# Altium schematic symbol library altera-cyclone-II.SCHLIB: 24 symbols (part 2 of 3)
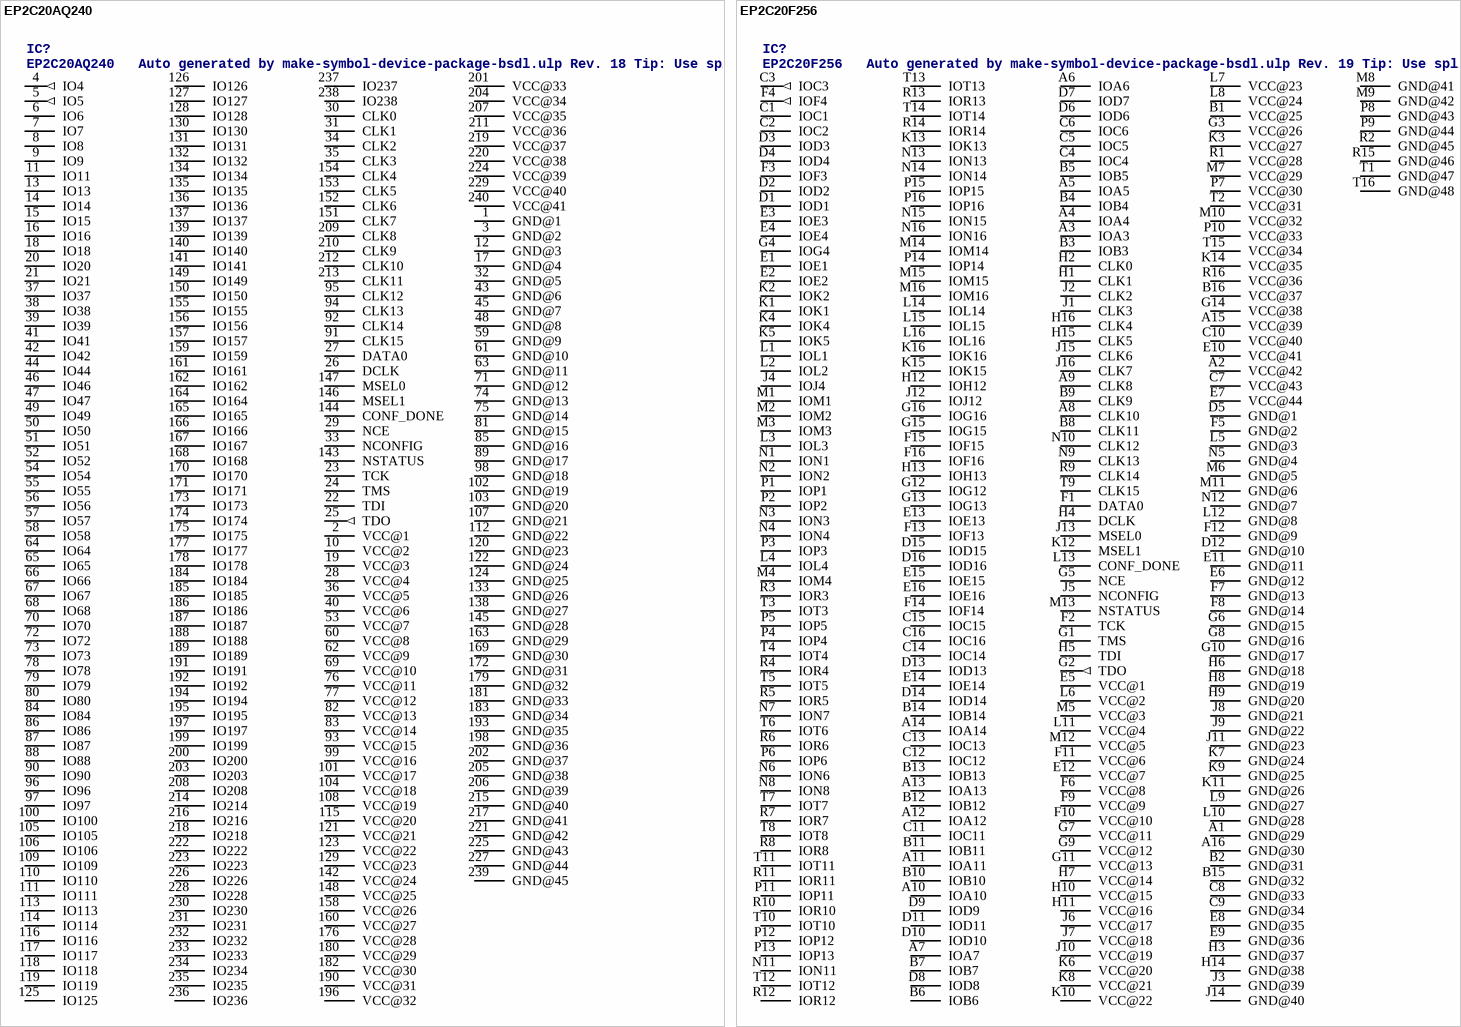
[diagram p21: symbols EP2C20AQ240 to EP2C20F256]

## EP2C20AQ240
designator IC?, comment EP2C20AQ240   Auto generated by make-symbol-device-package-bsdl.ulp Rev. 18 Tip: Use split-device-symbol.ulp to generate a Device with multiple small symbols! Read HELP.   Source: EP2C20AQ240.BSD
OC_FARNELL: unknown; OC_NEWARK: unknown
footprint PQFP240
pins: 1 GND@1 (power), 2 VCC@1 (power), 3 GND@2 (power), 4 IO4 (out), 5 IO5 (out), 6 IO6, 7 IO7, 8 IO8, 9 IO9, 10 VCC@2 (power), 11 IO11, 12 GND@3 (power), 13 IO13, 14 IO14, 15 IO15, 16 IO16, 17 GND@4 (power), 18 IO18, 19 VCC@3 (power), 20 IO20, 21 IO21, 22 TDI, 23 TCK, 24 TMS, 25 TDO (out), 26 DCLK, 27 DATA0, 28 VCC@4 (power), 29 NCE, 30 CLK0, 31 CLK1, 32 GND@5 (power), 33 NCONFIG, 34 CLK2, 35 CLK3, 36 VCC@5 (power), 37 IO37, 38 IO38, 39 IO39, 40 VCC@6 (power), 41 IO41, 42 IO42, 43 GND@6 (power), 44 IO44, 45 GND@7 (power), 46 IO46, 47 IO47, 48 GND@8 (power), 49 IO49, 50 IO50, 51 IO51, 52 IO52, 53 VCC@7 (power), 54 IO54, 55 IO55, 56 IO56, 57 IO57, 58 IO58, 59 GND@9 (power), 60 VCC@8 (power), 61 GND@10 (power), 62 VCC@9 (power), 63 GND@11 (power), 64 IO64, 65 IO65, 66 IO66, 67 IO67, 68 IO68, 69 VCC@10 (power), 70 IO70, 71 GND@12 (power), 72 IO72, 73 IO73, 74 GND@13 (power), 75 GND@14 (power), 76 VCC@11 (power), 77 VCC@12 (power), 78 IO78, 79 IO79, 80 IO80, 81 GND@15 (power), 82 VCC@13 (power), 83 VCC@14 (power), 84 IO84, 85 GND@16 (power), 86 IO86, 87 IO87, 88 IO88, 89 GND@17 (power), 90 IO90, 91 CLK15, 92 CLK14, 93 VCC@15 (power), 94 CLK13, 95 CLK12, 96 IO96, 97 IO97, 98 GND@18 (power), 99 VCC@16 (power), 100 IO100, 101 VCC@17 (power), 102 GND@19 (power), 103 GND@20 (power), 104 VCC@18 (power), 105 IO105, 106 IO106, 107 GND@21 (power), 108 VCC@19 (power), 109 IO109, 110 IO110, 111 IO111, 112 GND@22 (power), 113 IO113, 114 IO114, 115 VCC@20 (power), 116 IO116, 117 IO117, 118 IO118, 119 IO119, 120 GND@23 (power), 121 VCC@21 (power), 122 GND@24 (power), 123 VCC@22 (power), 124 GND@25 (power), 125 IO125, 126 IO126, 127 IO127, 128 IO128, 129 VCC@23 (power), 130 IO130, 131 IO131, 132 IO132, 133 GND@26 (power), 134 IO134, 135 IO135, 136 IO136, 137 IO137, 138 GND@27 (power), 139 IO139, 140 IO140, 141 IO141, 142 VCC@24 (power), 143 NSTATUS, 144 CONF_DONE, 145 GND@28 (power), 146 MSEL1, 147 MSEL0, 148 VCC@25 (power), 149 IO149, 150 IO150, 151 CLK7, 152 CLK6, 153 CLK5, 154 CLK4, 155 IO155, 156 IO156, 157 IO157, 158 VCC@26 (power), 159 IO159, 160 VCC@27 (power), 161 IO161, 162 IO162, 163 GND@29 (power), 164 IO164, 165 IO165, 166 IO166, 167 IO167, 168 IO168, 169 GND@30 (power), 170 IO170, 171 IO171, 172 GND@31 (power), 173 IO173, 174 IO174, 175 IO175, 176 VCC@28 (power), 177 IO177, 178 IO178, 179 GND@32 (power), 180 VCC@29 (power), 181 GND@33 (power), 182 VCC@30 (power), 183 GND@34 (power), 184 IO184, 185 IO185, 186 IO186, 187 IO187, 188 IO188, 189 IO189, 190 VCC@31 (power), 191 IO191, 192 IO192, 193 GND@35 (power), 194 IO194, 195 IO195, 196 VCC@32 (power), 197 IO197, 198 GND@36 (power), 199 IO199, 200 IO200, 201 VCC@33 (power), 202 GND@37 (power), 203 IO203, 204 VCC@34 (power), 205 GND@38 (power), 206 GND@39 (power), 207 VCC@35 (power), 208 IO208, 209 CLK8, 210 CLK9, 211 VCC@36 (power), 212 CLK10, 213 CLK11, 214 IO214, 215 GND@40 (power), 216 IO216, 217 GND@41 (power), 218 IO218, 219 VCC@37 (power), 220 VCC@38 (power), 221 GND@42 (power), 222 IO222, 223 IO223, 224 VCC@39 (power), 225 GND@43 (power), 226 IO226, 227 GND@44 (power), 228 IO228, 229 VCC@40 (power), 230 IO230, 231 IO231, 232 IO232, 233 IO233, 234 IO234, 235 IO235, 236 IO236, 237 IO237, 238 IO238, 239 GND@45 (power), 240 VCC@41 (power)

## EP2C20F256
designator IC?, comment EP2C20F256   Auto generated by make-symbol-device-package-bsdl.ulp Rev. 19 Tip: Use split-device-symbol.ulp to generate a Device with multiple small symbols! Read HELP.   Source: EP2C20F256.BSD
MPN: EP2C20F256I8N; OC_FARNELL: 1453469; OC_NEWARK: 52R0507
footprint FBGA256
pins: A1 GND@29 (power), A2 VCC@42 (power), A3 IOA3, A4 IOA4, A5 IOA5, A6 IOA6, A7 IOA7, A8 CLK10, A9 CLK8, A10 IOA10, A11 IOA11, A12 IOA12, A13 IOA13, A14 IOA14, A15 VCC@39 (power), A16 GND@30 (power), B1 VCC@25 (power), B2 GND@31 (power), B3 IOB3, B4 IOB4, B5 IOB5, B6 IOB6, B7 IOB7, B8 CLK11, B9 CLK9, B10 IOB10, B11 IOB11, B12 IOB12, B13 IOB13, B14 IOB14, B15 GND@32 (power), B16 VCC@37 (power), C1 IOC1, C2 IOC2, C3 IOC3 (out), C4 IOC4, C5 IOC5, C6 IOC6, C7 VCC@43 (power), C8 GND@33 (power), C9 GND@34 (power), C10 VCC@40 (power), C11 IOC11, C12 IOC12, C13 IOC13, C14 IOC14, C15 IOC15, C16 IOC16, D1 IOD1, D2 IOD2, D3 IOD3, D4 IOD4, D5 GND@1 (power), D6 IOD6, D7 IOD7, D8 IOD8, D9 IOD9, D10 IOD10, D11 IOD11, D12 GND@10 (power), D13 IOD13, D14 IOD14, D15 IOD15, D16 IOD16, E1 IOE1, E2 IOE2, E3 IOE3, E4 IOE4, E5 VCC@1 (power), E6 GND@12 (power), E7 VCC@44 (power), E8 GND@35 (power), E9 GND@36 (power), E10 VCC@41 (power), E11 GND@11 (power), E12 VCC@7 (power), E13 IOE13, E14 IOE14, E15 IOE15, E16 IOE16, F1 DATA0, F2 TCK, F3 IOF3, F4 IOF4 (out), F5 GND@2 (power), F6 VCC@8 (power), F7 GND@13 (power), F8 GND@14 (power), F9 VCC@9 (power), F10 VCC@10 (power), F11 VCC@6 (power), F12 GND@9 (power), F13 IOF13, F14 IOF14, F15 IOF15, F16 IOF16, G1 TMS, G2 TDO (out), G3 VCC@26 (power), G4 IOG4, G5 NCE, G6 GND@15 (power), G7 VCC@11 (power), G8 GND@16 (power), G9 VCC@12 (power), G10 GND@17 (power), G11 VCC@13 (power), G12 IOG12, G13 IOG13, G14 VCC@38 (power), G15 IOG15, G16 IOG16, H1 CLK1, H2 CLK0, H3 GND@37 (power), H4 DCLK, H5 TDI, H6 GND@18 (power), H7 VCC@14 (power), H8 GND@19 (power), H9 GND@20 (power), H10 VCC@15 (power), H11 VCC@16 (power), H12 IOH12, H13 IOH13, H14 GND@38 (power), H15 CLK5, H16 CLK4, J1 CLK3, J2 CLK2, J3 GND@39 (power), J4 IOJ4, J5 NCONFIG, J6 VCC@17 (power), J7 VCC@18 (power), J8 GND@21 (power), J9 GND@22 (power), J10 VCC@19 (power), J11 GND@23 (power), J12 IOJ12, J13 MSEL0, J14 GND@40 (power), J15 CLK6, J16 CLK7, K1 IOK1, K2 IOK2, K3 VCC@27 (power), K4 IOK4, K5 IOK5, K6 VCC@20 (power), K7 GND@24 (power), K8 VCC@21 (power), K9 GND@25 (power), K10 VCC@22 (power), K11 GND@26 (power), K12 MSEL1, K13 IOK13, K14 VCC@35 (power), K15 IOK15, K16 IOK16, L1 IOL1, L2 IOL2, L3 IOL3, L4 IOL4, L5 GND@3 (power), L6 VCC@2 (power), L7 VCC@23 (power), L8 VCC@24 (power), L9 GND@27 (power), L10 GND@28 (power), L11 VCC@4 (power), L12 GND@8 (power), L13 CONF_DONE, L14 IOL14, L15 IOL15, L16 IOL16, M1 IOM1, M2 IOM2, M3 IOM3, M4 IOM4, M5 VCC@3 (power), M6 GND@5 (power), M7 VCC@29 (power), M8 GND@41 (power), M9 GND@42 (power), M10 VCC@32 (power), M11 GND@6 (power), M12 VCC@5 (power), M13 NSTATUS, M14 IOM14, M15 IOM15, M16 IOM16, N1 ION1, N2 ION2, N3 ION3, N4 ION4, N5 GND@4 (power), N6 ION6, N7 ION7, N8 ION8, N9 CLK13, N10 CLK12, N11 ION11, N12 GND@7 (power), N13 ION13, N14 ION14, N15 ION15, N16 ION16, P1 IOP1, P2 IOP2, P3 IOP3, P4 IOP4, P5 IOP5, P6 IOP6, P7 VCC@30 (power), P8 GND@43 (power), P9 GND@44 (power), P10 VCC@33 (power), P11 IOP11, P12 IOP12, P13 IOP13, P14 IOP14, P15 IOP15, P16 IOP16, R1 VCC@28 (power), R2 GND@45 (power), R3 IOR3, R4 IOR4, R5 IOR5, R6 IOR6, R7 IOR7, R8 IOR8, R9 CLK14, R10 IOR10, R11 IOR11, R12 IOR12, R13 IOR13, R14 IOR14, R15 GND@46 (power), R16 VCC@36 (power), T1 GND@47 (power), T2 VCC@31 (power), T3 IOT3, T4 IOT4, T5 IOT5, T6 IOT6, T7 IOT7, T8 IOT8, T9 CLK15, T10 IOT10, T11 IOT11, T12 IOT12, T13 IOT13, T14 IOT14, T15 VCC@34 (power), T16 GND@48 (power)

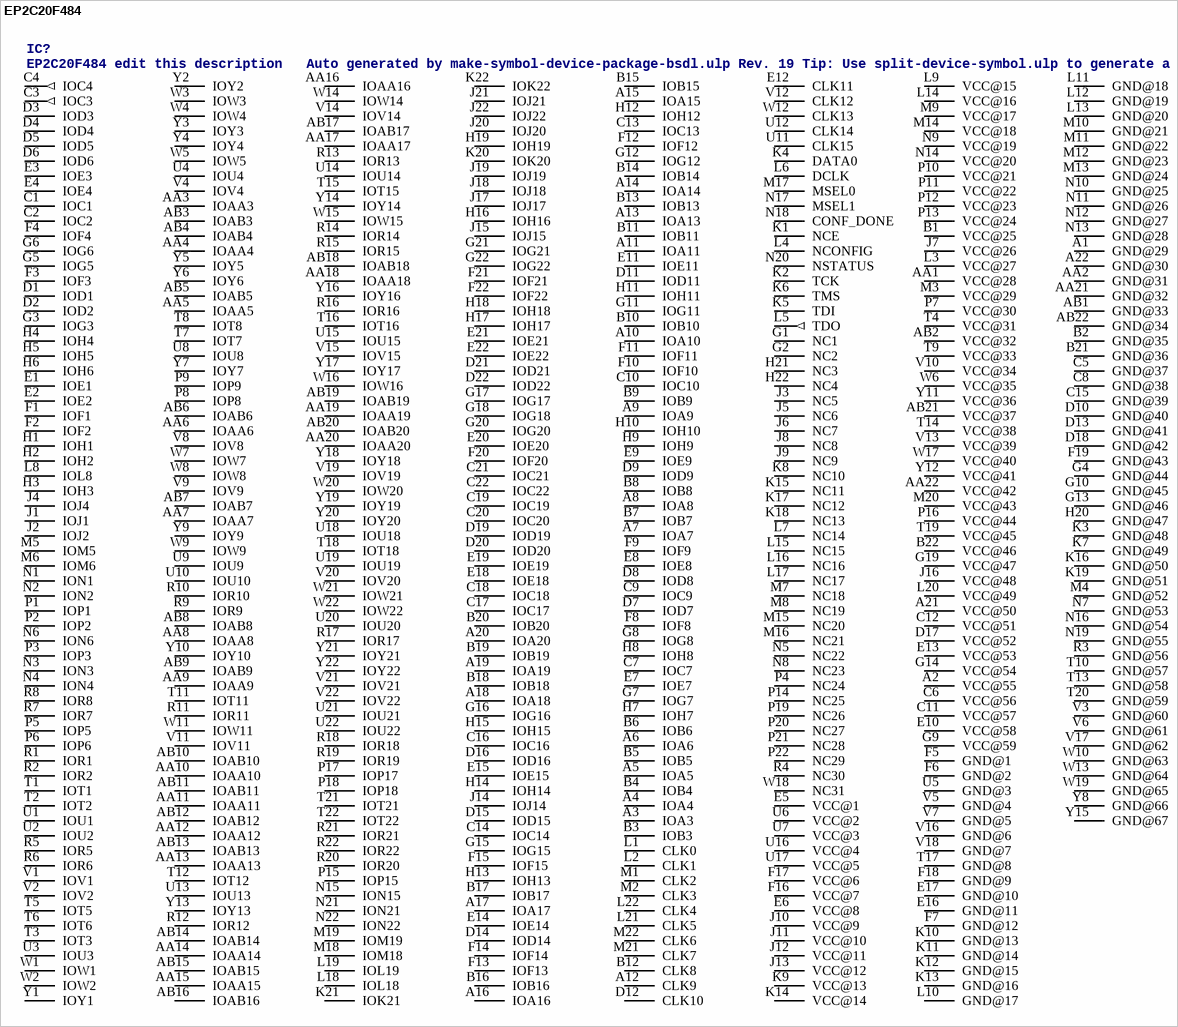
[diagram p13: symbol EP2C20F484]

## EP2C20F484
designator IC?, comment EP2C20F484 edit this description   Auto generated by make-symbol-device-package-bsdl.ulp Rev. 19 Tip: Use split-device-symbol.ulp to generate a Device with multiple small symbols! Read HELP.   Source: EP2C20F484.BSD
MPN: EP2C20F484C8N; OC_FARNELL: 1549354; OC_NEWARK: 51R0561
footprint FBGA484
pins: A1 GND@29 (power), A2 VCC@55 (power), A3 IOA3, A4 IOA4, A5 IOA5, A6 IOA6, A7 IOA7, A8 IOA8, A9 IOA9, A10 IOA10, A11 IOA11, A12 CLK9, A13 IOA13, A14 IOA14, A15 IOA15, A16 IOA16, A17 IOA17, A18 IOA18, A19 IOA19, A20 IOA20, A21 VCC@50 (power), A22 GND@30 (power), AA1 VCC@28 (power), AA2 GND@31 (power), AA3 IOAA3, AA4 IOAA4, AA5 IOAA5, AA6 IOAA6, AA7 IOAA7, AA8 IOAA8, AA9 IOAA9, AA10 IOAA10, AA11 IOAA11, AA12 IOAA12, AA13 IOAA13, AA14 IOAA14, AA15 IOAA15, AA16 IOAA16, AA17 IOAA17, AA18 IOAA18, AA19 IOAA19, AA20 IOAA20, AA21 GND@32 (power), AA22 VCC@42 (power), AB1 GND@33 (power), AB2 VCC@32 (power), AB3 IOAB3, AB4 IOAB4, AB5 IOAB5, AB6 IOAB6, AB7 IOAB7, AB8 IOAB8, AB9 IOAB9, AB10 IOAB10, AB11 IOAB11, AB12 IOAB12, AB13 IOAB13, AB14 IOAB14, AB15 IOAB15, AB16 IOAB16, AB17 IOAB17, AB18 IOAB18, AB19 IOAB19, AB20 IOAB20, AB21 VCC@37 (power), AB22 GND@34 (power), B1 VCC@25 (power), B2 GND@35 (power), B3 IOB3, B4 IOB4, B5 IOB5, B6 IOB6, B7 IOB7, B8 IOB8, B9 IOB9, B10 IOB10, B11 IOB11, B12 CLK8, B13 IOB13, B14 IOB14, B15 IOB15, B16 IOB16, B17 IOB17, B18 IOB18, B19 IOB19, B20 IOB20, B21 GND@36 (power), B22 VCC@46 (power), C1 IOC1, C2 IOC2, C3 IOC3 (out), C4 IOC4 (out), C5 GND@37 (power), C6 VCC@56 (power), C7 IOC7, C8 GND@38 (power), C9 IOC9, C10 IOC10, C11 VCC@57 (power), C12 VCC@51 (power), C13 IOC13, C14 IOC14, C15 GND@39 (power), C16 IOC16, C17 IOC17, C18 IOC18, C19 IOC19, C20 IOC20, C21 IOC21, C22 IOC22, D1 IOD1, D2 IOD2, D3 IOD3, D4 IOD4, D5 IOD5, D6 IOD6, D7 IOD7, D8 IOD8, D9 IOD9, D10 GND@40 (power), D11 IOD11, D12 CLK10, D13 GND@41 (power), D14 IOD14, D15 IOD15, D16 IOD16, D17 VCC@52 (power), D18 GND@42 (power), D19 IOD19, D20 IOD20, D21 IOD21, D22 IOD22, E1 IOE1, E2 IOE2, E3 IOE3, E4 IOE4, E5 VCC@1 (power), E6 VCC@8 (power), E7 IOE7, E8 IOE8, E9 IOE9, E10 VCC@58 (power), E11 IOE11, E12 CLK11, E13 VCC@53 (power), E14 IOE14, E15 IOE15, E16 GND@11 (power), E17 GND@10 (power), E18 IOE18, E19 IOE19, E20 IOE20, E21 IOE21, E22 IOE22, F1 IOF1, F2 IOF2, F3 IOF3, F4 IOF4, F5 GND@1 (power), F6 GND@2 (power), F7 GND@12 (power), F8 IOF8, F9 IOF9, F10 IOF10, F11 IOF11, F12 IOF12, F13 IOF13, F14 IOF14, F15 IOF15, F16 VCC@7 (power), F17 VCC@6 (power), F18 GND@9 (power), F19 GND@43 (power), F20 IOF20, F21 IOF21, F22 IOF22, G1 NC1, G2 NC2, G3 IOG3, G4 GND@44 (power), G5 IOG5, G6 IOG6, G7 IOG7, G8 IOG8, G9 VCC@59 (power), G10 GND@45 (power), G11 IOG11, G12 IOG12, G13 GND@46 (power), G14 VCC@54 (power), G15 IOG15, G16 IOG16, G17 IOG17, G18 IOG18, G19 VCC@47 (power), G20 IOG20, G21 IOG21, G22 IOG22, H1 IOH1, H2 IOH2, H3 IOH3, H4 IOH4, H5 IOH5, H6 IOH6, H7 IOH7, H8 IOH8, H9 IOH9, H10 IOH10, H11 IOH11, H12 IOH12, H13 IOH13, H14 IOH14, H15 IOH15, H16 IOH16, H17 IOH17, H18 IOH18, H19 IOH19, H20 GND@47 (power), H21 NC3, H22 NC4, J1 IOJ1, J2 IOJ2, J3 NC5, J4 IOJ4, J5 NC6, J6 NC7, J7 VCC@26 (power), J8 NC8, J9 NC9, J10 VCC@9 (power), J11 VCC@10 (power), J12 VCC@11 (power), J13 VCC@12 (power), J14 IOJ14, J15 IOJ15, J16 VCC@48 (power), J17 IOJ17, J18 IOJ18, J19 IOJ19, J20 IOJ20, J21 IOJ21, J22 IOJ22, K1 NCE, K2 TCK, K3 GND@48 (power), K4 DATA0, K5 TDI, K6 TMS, K7 GND@49 (power), K8 NC10, K9 VCC@13 (power), K10 GND@13 (power), K11 GND@14 (power), K12 GND@15 (power), K13 GND@16 (power), K14 VCC@14 (power), K15 NC11, K16 GND@50 (power), K17 NC12, K18 NC13, K19 GND@51 (power), K20 IOK20, K21 IOK21, K22 IOK22, L1 CLK0, L2 CLK1, L3 VCC@27 (power), L4 NCONFIG, L5 TDO (out), L6 DCLK, L7 NC14, L8 IOL8, L9 VCC@15 (power), L10 GND@17 (power), L11 GND@18 (power), L12 GND@19 (power), L13 GND@20 (power), L14 VCC@16 (power), L15 NC15, L16 NC16, L17 NC17, L18 IOL18, L19 IOL19, L20 VCC@49 (power), L21 CLK5, L22 CLK4, M1 CLK2, M2 CLK3, M3 VCC@29 (power), M4 GND@52 (power), M5 IOM5, M6 IOM6, M7 NC18, M8 NC19, M9 VCC@17 (power), M10 GND@21 (power), M11 GND@22 (power), M12 GND@23 (power), M13 GND@24 (power), M14 VCC@18 (power), M15 NC20, M16 NC21, M17 MSEL0, M18 IOM18, M19 IOM19, M20 VCC@43 (power), M21 CLK7, M22 CLK6, N1 ION1, N2 ION2, N3 ION3, N4 ION4, N5 NC22, N6 ION6, N7 GND@53 (power), N8 NC23, N9 VCC@19 (power), N10 GND@25 (power), N11 GND@26 (power), N12 GND@27 (power), N13 GND@28 (power), N14 VCC@20 (power), N15 ION15, N16 GND@54 (power), N17 MSEL1, N18 CONF_DONE, N19 GND@55 (power), N20 NSTATUS, N21 ION21, N22 ION22, P1 IOP1, P2 IOP2, P3 IOP3, P4 NC24, P5 IOP5, P6 IOP6, P7 VCC@30 (power), P8 IOP8, P9 IOP9, P10 VCC@21 (power), P11 VCC@22 (power), P12 VCC@23 (power), P13 VCC@24 (power), P14 NC25, P15 IOP15, P16 VCC@44 (power), P17 IOP17, P18 IOP18, P19 NC26, P20 NC27, P21 NC28, P22 NC29, R1 IOR1, R2 IOR2, R3 GND@56 (power), R4 NC30, R5 IOR5, R6 IOR6, R7 IOR7, R8 IOR8, R9 IOR9, R10 IOR10, R11 IOR11, R12 IOR12, R13 IOR13, R14 IOR14, R15 IOR15, R16 IOR16, R17 IOR17, R18 IOR18, R19 IOR19, R20 IOR20, R21 IOR21, R22 IOR22, T1 IOT1, T2 IOT2, T3 IOT3, T4 VCC@31 (power), T5 IOT5, T6 IOT6, T7 IOT7, T8 IOT8, T9 VCC@33 (power), T10 GND@57 (power), T11 IOT11, T12 IOT12, T13 GND@58 (power), T14 VCC@38 (power), T15 IOT15, T16 IOT16, T17 GND@8 (power), T18 IOT18, T19 VCC@45 (power), T20 GND@59 (power), T21 IOT21, T22 IOT22, U1 IOU1, U2 IOU2, U3 IOU3, U4 IOU4, U5 GND@3 (power), U6 VCC@2 (power), U7 VCC@3 (power), U8 IOU8, U9 IOU9, U10 IOU10, U11 CLK15, U12 CLK14, U13 IOU13, U14 IOU14, U15 IOU15, U16 VCC@4 (power), U17 VCC@5 (power), U18 IOU18, U19 IOU19, U20 IOU20, U21 IOU21, U22 IOU22, V1 IOV1, V2 IOV2, V3 GND@60 (power), V4 IOV4, V5 GND@4 (power), V6 GND@61 (power), V7 GND@5 (power), V8 IOV8, V9 IOV9, V10 VCC@34 (power), V11 IOV11, V12 CLK12, V13 VCC@39 (power), V14 IOV14, V15 IOV15, V16 GND@6 (power), V17 GND@62 (power), V18 GND@7 (power), V19 IOV19, V20 IOV20, V21 IOV21, V22 IOV22, W1 IOW1, W2 IOW2, W3 IOW3, W4 IOW4, W5 IOW5, W6 VCC@35 (power), W7 IOW7, W8 IOW8, W9 IOW9, W10 GND@63 (power), W11 IOW11, W12 CLK13, W13 GND@64 (power), W14 IOW14, W15 IOW15, W16 IOW16, W17 VCC@40 (power), W18 NC31, W19 GND@65 (power), W20 IOW20, W21 IOW21, W22 IOW22, Y1 IOY1, Y2 IOY2, Y3 IOY3, Y4 IOY4, Y5 IOY5, Y6 IOY6, Y7 IOY7, Y8 GND@66 (power), Y9 IOY9, Y10 IOY10, Y11 VCC@36 (power), Y12 VCC@41 (power), Y13 IOY13, Y14 IOY14, Y15 GND@67 (power), Y16 IOY16, Y17 IOY17, Y18 IOY18, Y19 IOY19, Y20 IOY20, Y21 IOY21, Y22 IOY22

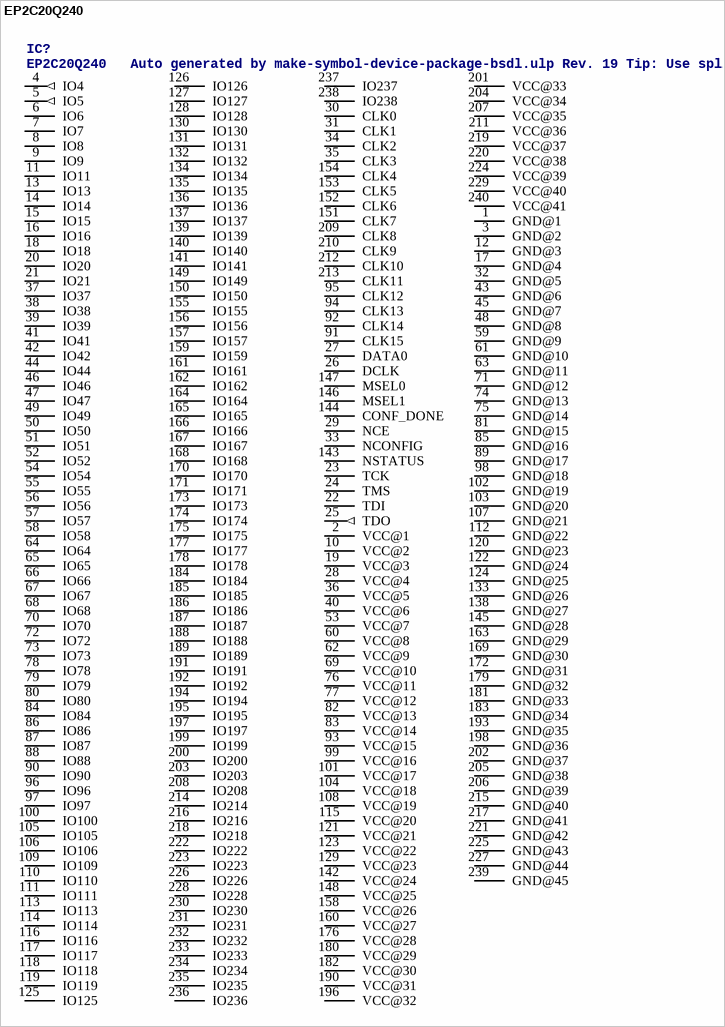
[diagram p14: symbol EP2C20Q240]

## EP2C20Q240
designator IC?, comment EP2C20Q240   Auto generated by make-symbol-device-package-bsdl.ulp Rev. 19 Tip: Use split-device-symbol.ulp to generate a Device with multiple small symbols! Read HELP.   Source: EP2C20Q240.BSD
MPN: EP2C20Q240C8N; OC_FARNELL: 1453472; OC_NEWARK: 51R0562
footprint PQFP240
pins: 1 GND@1 (power), 2 VCC@1 (power), 3 GND@2 (power), 4 IO4 (out), 5 IO5 (out), 6 IO6, 7 IO7, 8 IO8, 9 IO9, 10 VCC@2 (power), 11 IO11, 12 GND@3 (power), 13 IO13, 14 IO14, 15 IO15, 16 IO16, 17 GND@4 (power), 18 IO18, 19 VCC@3 (power), 20 IO20, 21 IO21, 22 TDI, 23 TCK, 24 TMS, 25 TDO (out), 26 DCLK, 27 DATA0, 28 VCC@4 (power), 29 NCE, 30 CLK0, 31 CLK1, 32 GND@5 (power), 33 NCONFIG, 34 CLK2, 35 CLK3, 36 VCC@5 (power), 37 IO37, 38 IO38, 39 IO39, 40 VCC@6 (power), 41 IO41, 42 IO42, 43 GND@6 (power), 44 IO44, 45 GND@7 (power), 46 IO46, 47 IO47, 48 GND@8 (power), 49 IO49, 50 IO50, 51 IO51, 52 IO52, 53 VCC@7 (power), 54 IO54, 55 IO55, 56 IO56, 57 IO57, 58 IO58, 59 GND@9 (power), 60 VCC@8 (power), 61 GND@10 (power), 62 VCC@9 (power), 63 GND@11 (power), 64 IO64, 65 IO65, 66 IO66, 67 IO67, 68 IO68, 69 VCC@10 (power), 70 IO70, 71 GND@12 (power), 72 IO72, 73 IO73, 74 GND@13 (power), 75 GND@14 (power), 76 VCC@11 (power), 77 VCC@12 (power), 78 IO78, 79 IO79, 80 IO80, 81 GND@15 (power), 82 VCC@13 (power), 83 VCC@14 (power), 84 IO84, 85 GND@16 (power), 86 IO86, 87 IO87, 88 IO88, 89 GND@17 (power), 90 IO90, 91 CLK15, 92 CLK14, 93 VCC@15 (power), 94 CLK13, 95 CLK12, 96 IO96, 97 IO97, 98 GND@18 (power), 99 VCC@16 (power), 100 IO100, 101 VCC@17 (power), 102 GND@19 (power), 103 GND@20 (power), 104 VCC@18 (power), 105 IO105, 106 IO106, 107 GND@21 (power), 108 VCC@19 (power), 109 IO109, 110 IO110, 111 IO111, 112 GND@22 (power), 113 IO113, 114 IO114, 115 VCC@20 (power), 116 IO116, 117 IO117, 118 IO118, 119 IO119, 120 GND@23 (power), 121 VCC@21 (power), 122 GND@24 (power), 123 VCC@22 (power), 124 GND@25 (power), 125 IO125, 126 IO126, 127 IO127, 128 IO128, 129 VCC@23 (power), 130 IO130, 131 IO131, 132 IO132, 133 GND@26 (power), 134 IO134, 135 IO135, 136 IO136, 137 IO137, 138 GND@27 (power), 139 IO139, 140 IO140, 141 IO141, 142 VCC@24 (power), 143 NSTATUS, 144 CONF_DONE, 145 GND@28 (power), 146 MSEL1, 147 MSEL0, 148 VCC@25 (power), 149 IO149, 150 IO150, 151 CLK7, 152 CLK6, 153 CLK5, 154 CLK4, 155 IO155, 156 IO156, 157 IO157, 158 VCC@26 (power), 159 IO159, 160 VCC@27 (power), 161 IO161, 162 IO162, 163 GND@29 (power), 164 IO164, 165 IO165, 166 IO166, 167 IO167, 168 IO168, 169 GND@30 (power), 170 IO170, 171 IO171, 172 GND@31 (power), 173 IO173, 174 IO174, 175 IO175, 176 VCC@28 (power), 177 IO177, 178 IO178, 179 GND@32 (power), 180 VCC@29 (power), 181 GND@33 (power), 182 VCC@30 (power), 183 GND@34 (power), 184 IO184, 185 IO185, 186 IO186, 187 IO187, 188 IO188, 189 IO189, 190 VCC@31 (power), 191 IO191, 192 IO192, 193 GND@35 (power), 194 IO194, 195 IO195, 196 VCC@32 (power), 197 IO197, 198 GND@36 (power), 199 IO199, 200 IO200, 201 VCC@33 (power), 202 GND@37 (power), 203 IO203, 204 VCC@34 (power), 205 GND@38 (power), 206 GND@39 (power), 207 VCC@35 (power), 208 IO208, 209 CLK8, 210 CLK9, 211 VCC@36 (power), 212 CLK10, 213 CLK11, 214 IO214, 215 GND@40 (power), 216 IO216, 217 GND@41 (power), 218 IO218, 219 VCC@37 (power), 220 VCC@38 (power), 221 GND@42 (power), 222 IO222, 223 IO223, 224 VCC@39 (power), 225 GND@43 (power), 226 IO226, 227 GND@44 (power), 228 IO228, 229 VCC@40 (power), 230 IO230, 231 IO231, 232 IO232, 233 IO233, 234 IO234, 235 IO235, 236 IO236, 237 IO237, 238 IO238, 239 GND@45 (power), 240 VCC@41 (power)

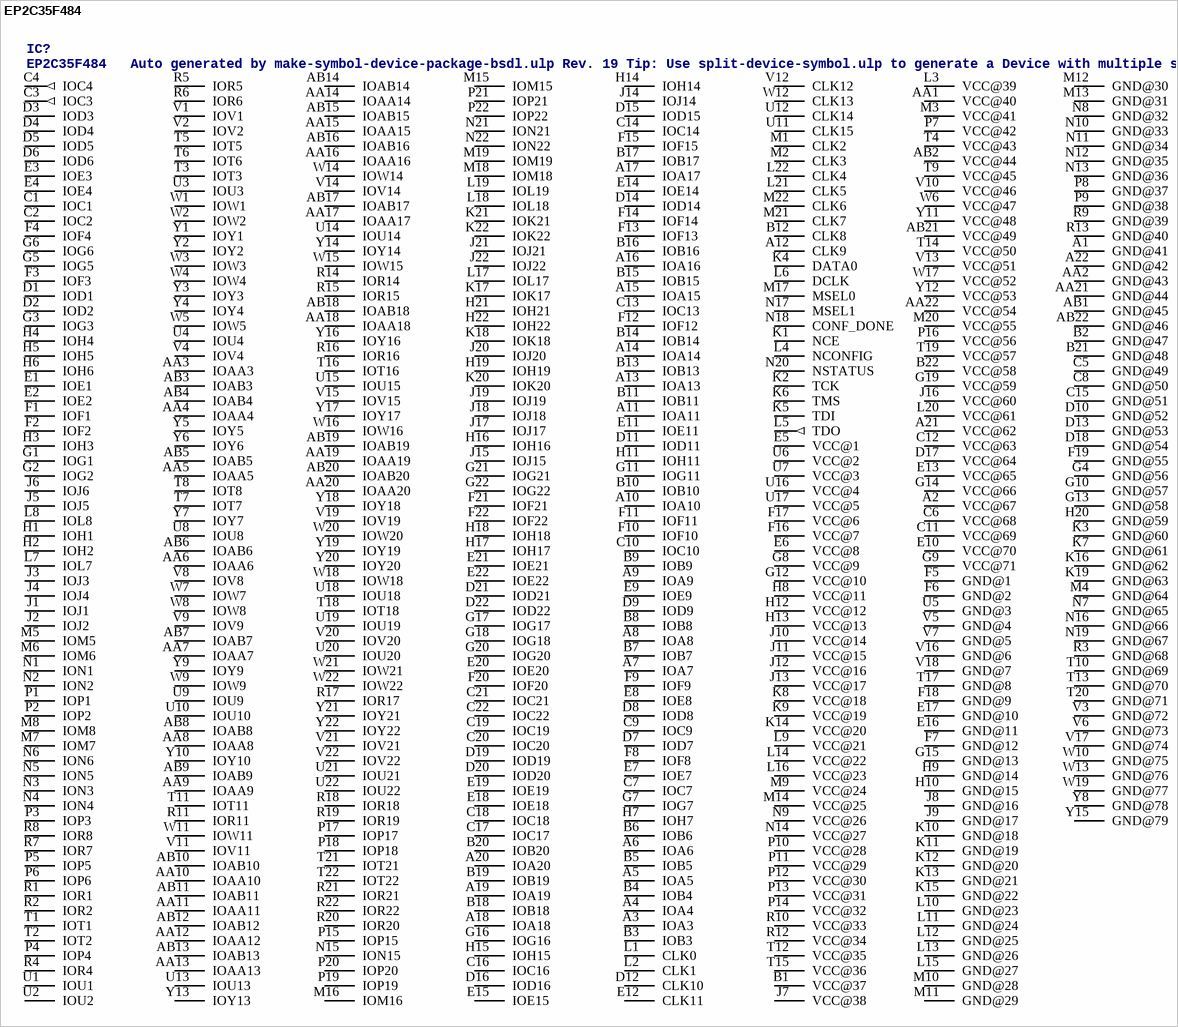
[diagram p15: symbol EP2C35F484]

## EP2C35F484
designator IC?, comment EP2C35F484   Auto generated by make-symbol-device-package-bsdl.ulp Rev. 19 Tip: Use split-device-symbol.ulp to generate a Device with multiple small symbols! Read HELP.   Source: EP2C35F484.BSD
MPN: EP2C35F484C8N; OC_FARNELL: 1453465; OC_NEWARK: 51R0563
footprint FBGA484
pins: A1 GND@41 (power), A2 VCC@67 (power), A3 IOA3, A4 IOA4, A5 IOA5, A6 IOA6, A7 IOA7, A8 IOA8, A9 IOA9, A10 IOA10, A11 IOA11, A12 CLK9, A13 IOA13, A14 IOA14, A15 IOA15, A16 IOA16, A17 IOA17, A18 IOA18, A19 IOA19, A20 IOA20, A21 VCC@62 (power), A22 GND@42 (power), AA1 VCC@40 (power), AA2 GND@43 (power), AA3 IOAA3, AA4 IOAA4, AA5 IOAA5, AA6 IOAA6, AA7 IOAA7, AA8 IOAA8, AA9 IOAA9, AA10 IOAA10, AA11 IOAA11, AA12 IOAA12, AA13 IOAA13, AA14 IOAA14, AA15 IOAA15, AA16 IOAA16, AA17 IOAA17, AA18 IOAA18, AA19 IOAA19, AA20 IOAA20, AA21 GND@44 (power), AA22 VCC@54 (power), AB1 GND@45 (power), AB2 VCC@44 (power), AB3 IOAB3, AB4 IOAB4, AB5 IOAB5, AB6 IOAB6, AB7 IOAB7, AB8 IOAB8, AB9 IOAB9, AB10 IOAB10, AB11 IOAB11, AB12 IOAB12, AB13 IOAB13, AB14 IOAB14, AB15 IOAB15, AB16 IOAB16, AB17 IOAB17, AB18 IOAB18, AB19 IOAB19, AB20 IOAB20, AB21 VCC@49 (power), AB22 GND@46 (power), B1 VCC@37 (power), B2 GND@47 (power), B3 IOB3, B4 IOB4, B5 IOB5, B6 IOB6, B7 IOB7, B8 IOB8, B9 IOB9, B10 IOB10, B11 IOB11, B12 CLK8, B13 IOB13, B14 IOB14, B15 IOB15, B16 IOB16, B17 IOB17, B18 IOB18, B19 IOB19, B20 IOB20, B21 GND@48 (power), B22 VCC@58 (power), C1 IOC1, C2 IOC2, C3 IOC3 (out), C4 IOC4 (out), C5 GND@49 (power), C6 VCC@68 (power), C7 IOC7, C8 GND@50 (power), C9 IOC9, C10 IOC10, C11 VCC@69 (power), C12 VCC@63 (power), C13 IOC13, C14 IOC14, C15 GND@51 (power), C16 IOC16, C17 IOC17, C18 IOC18, C19 IOC19, C20 IOC20, C21 IOC21, C22 IOC22, D1 IOD1, D2 IOD2, D3 IOD3, D4 IOD4, D5 IOD5, D6 IOD6, D7 IOD7, D8 IOD8, D9 IOD9, D10 GND@52 (power), D11 IOD11, D12 CLK10, D13 GND@53 (power), D14 IOD14, D15 IOD15, D16 IOD16, D17 VCC@64 (power), D18 GND@54 (power), D19 IOD19, D20 IOD20, D21 IOD21, D22 IOD22, E1 IOE1, E2 IOE2, E3 IOE3, E4 IOE4, E5 VCC@1 (power), E6 VCC@8 (power), E7 IOE7, E8 IOE8, E9 IOE9, E10 VCC@70 (power), E11 IOE11, E12 CLK11, E13 VCC@65 (power), E14 IOE14, E15 IOE15, E16 GND@11 (power), E17 GND@10 (power), E18 IOE18, E19 IOE19, E20 IOE20, E21 IOE21, E22 IOE22, F1 IOF1, F2 IOF2, F3 IOF3, F4 IOF4, F5 GND@1 (power), F6 GND@2 (power), F7 GND@12 (power), F8 IOF8, F9 IOF9, F10 IOF10, F11 IOF11, F12 IOF12, F13 IOF13, F14 IOF14, F15 IOF15, F16 VCC@7 (power), F17 VCC@6 (power), F18 GND@9 (power), F19 GND@55 (power), F20 IOF20, F21 IOF21, F22 IOF22, G1 IOG1, G2 IOG2, G3 IOG3, G4 GND@56 (power), G5 IOG5, G6 IOG6, G7 IOG7, G8 VCC@9 (power), G9 VCC@71 (power), G10 GND@57 (power), G11 IOG11, G12 VCC@10 (power), G13 GND@58 (power), G14 VCC@66 (power), G15 GND@13 (power), G16 IOG16, G17 IOG17, G18 IOG18, G19 VCC@59 (power), G20 IOG20, G21 IOG21, G22 IOG22, H1 IOH1, H2 IOH2, H3 IOH3, H4 IOH4, H5 IOH5, H6 IOH6, H7 IOH7, H8 VCC@11 (power), H9 GND@14 (power), H10 GND@15 (power), H11 IOH11, H12 VCC@12 (power), H13 VCC@13 (power), H14 IOH14, H15 IOH15, H16 IOH16, H17 IOH17, H18 IOH18, H19 IOH19, H20 GND@59 (power), H21 IOH21, H22 IOH22, J1 IOJ1, J2 IOJ2, J3 IOJ3, J4 IOJ4, J5 IOJ5, J6 IOJ6, J7 VCC@38 (power), J8 GND@16 (power), J9 GND@17 (power), J10 VCC@14 (power), J11 VCC@15 (power), J12 VCC@16 (power), J13 VCC@17 (power), J14 IOJ14, J15 IOJ15, J16 VCC@60 (power), J17 IOJ17, J18 IOJ18, J19 IOJ19, J20 IOJ20, J21 IOJ21, J22 IOJ22, K1 NCE, K2 TCK, K3 GND@60 (power), K4 DATA0, K5 TDI, K6 TMS, K7 GND@61 (power), K8 VCC@18 (power), K9 VCC@19 (power), K10 GND@18 (power), K11 GND@19 (power), K12 GND@20 (power), K13 GND@21 (power), K14 VCC@20 (power), K15 GND@22 (power), K16 GND@62 (power), K17 IOK17, K18 IOK18, K19 GND@63 (power), K20 IOK20, K21 IOK21, K22 IOK22, L1 CLK0, L2 CLK1, L3 VCC@39 (power), L4 NCONFIG, L5 TDO (out), L6 DCLK, L7 IOL7, L8 IOL8, L9 VCC@21 (power), L10 GND@23 (power), L11 GND@24 (power), L12 GND@25 (power), L13 GND@26 (power), L14 VCC@22 (power), L15 GND@27 (power), L16 VCC@23 (power), L17 IOL17, L18 IOL18, L19 IOL19, L20 VCC@61 (power), L21 CLK5, L22 CLK4, M1 CLK2, M2 CLK3, M3 VCC@41 (power), M4 GND@64 (power), M5 IOM5, M6 IOM6, M7 IOM7, M8 IOM8, M9 VCC@24 (power), M10 GND@28 (power), M11 GND@29 (power), M12 GND@30 (power), M13 GND@31 (power), M14 VCC@25 (power), M15 IOM15, M16 IOM16, M17 MSEL0, M18 IOM18, M19 IOM19, M20 VCC@55 (power), M21 CLK7, M22 CLK6, N1 ION1, N2 ION2, N3 ION3, N4 ION4, N5 ION5, N6 ION6, N7 GND@65 (power), N8 GND@32 (power), N9 VCC@26 (power), N10 GND@33 (power), N11 GND@34 (power), N12 GND@35 (power), N13 GND@36 (power), N14 VCC@27 (power), N15 ION15, N16 GND@66 (power), N17 MSEL1, N18 CONF_DONE, N19 GND@67 (power), N20 NSTATUS, N21 ION21, N22 ION22, P1 IOP1, P2 IOP2, P3 IOP3, P4 IOP4, P5 IOP5, P6 IOP6, P7 VCC@42 (power), P8 GND@37 (power), P9 GND@38 (power), P10 VCC@28 (power), P11 VCC@29 (power), P12 VCC@30 (power), P13 VCC@31 (power), P14 VCC@32 (power), P15 IOP15, P16 VCC@56 (power), P17 IOP17, P18 IOP18, P19 IOP19, P20 IOP20, P21 IOP21, P22 IOP22, R1 IOR1, R2 IOR2, R3 GND@68 (power), R4 IOR4, R5 IOR5, R6 IOR6, R7 IOR7, R8 IOR8, R9 GND@39 (power), R10 VCC@33 (power), R11 IOR11, R12 VCC@34 (power), R13 GND@40 (power), R14 IOR14, R15 IOR15, R16 IOR16, R17 IOR17, R18 IOR18, R19 IOR19, R20 IOR20, R21 IOR21, R22 IOR22, T1 IOT1, T2 IOT2, T3 IOT3, T4 VCC@43 (power), T5 IOT5, T6 IOT6, T7 IOT7, T8 IOT8, T9 VCC@45 (power), T10 GND@69 (power), T11 IOT11, T12 VCC@35 (power), T13 GND@70 (power), T14 VCC@50 (power), T15 VCC@36 (power), T16 IOT16, T17 GND@8 (power), T18 IOT18, T19 VCC@57 (power), T20 GND@71 (power), T21 IOT21, T22 IOT22, U1 IOU1, U2 IOU2, U3 IOU3, U4 IOU4, U5 GND@3 (power), U6 VCC@2 (power), U7 VCC@3 (power), U8 IOU8, U9 IOU9, U10 IOU10, U11 CLK15, U12 CLK14, U13 IOU13, U14 IOU14, U15 IOU15, U16 VCC@4 (power), U17 VCC@5 (power), U18 IOU18, U19 IOU19, U20 IOU20, U21 IOU21, U22 IOU22, V1 IOV1, V2 IOV2, V3 GND@72 (power), V4 IOV4, V5 GND@4 (power), V6 GND@73 (power), V7 GND@5 (power), V8 IOV8, V9 IOV9, V10 VCC@46 (power), V11 IOV11, V12 CLK12, V13 VCC@51 (power), V14 IOV14, V15 IOV15, V16 GND@6 (power), V17 GND@74 (power), V18 GND@7 (power), V19 IOV19, V20 IOV20, V21 IOV21, V22 IOV22, W1 IOW1, W2 IOW2, W3 IOW3, W4 IOW4, W5 IOW5, W6 VCC@47 (power), W7 IOW7, W8 IOW8, W9 IOW9, W10 GND@75 (power), W11 IOW11, W12 CLK13, W13 GND@76 (power), W14 IOW14, W15 IOW15, W16 IOW16, W17 VCC@52 (power), W18 IOW18, W19 GND@77 (power), W20 IOW20, W21 IOW21, W22 IOW22, Y1 IOY1, Y2 IOY2, Y3 IOY3, Y4 IOY4, Y5 IOY5, Y6 IOY6, Y7 IOY7, Y8 GND@78 (power), Y9 IOY9, Y10 IOY10, Y11 VCC@48 (power), Y12 VCC@53 (power), Y13 IOY13, Y14 IOY14, Y15 GND@79 (power), Y16 IOY16, Y17 IOY17, Y18 IOY18, Y19 IOY19, Y20 IOY20, Y21 IOY21, Y22 IOY22

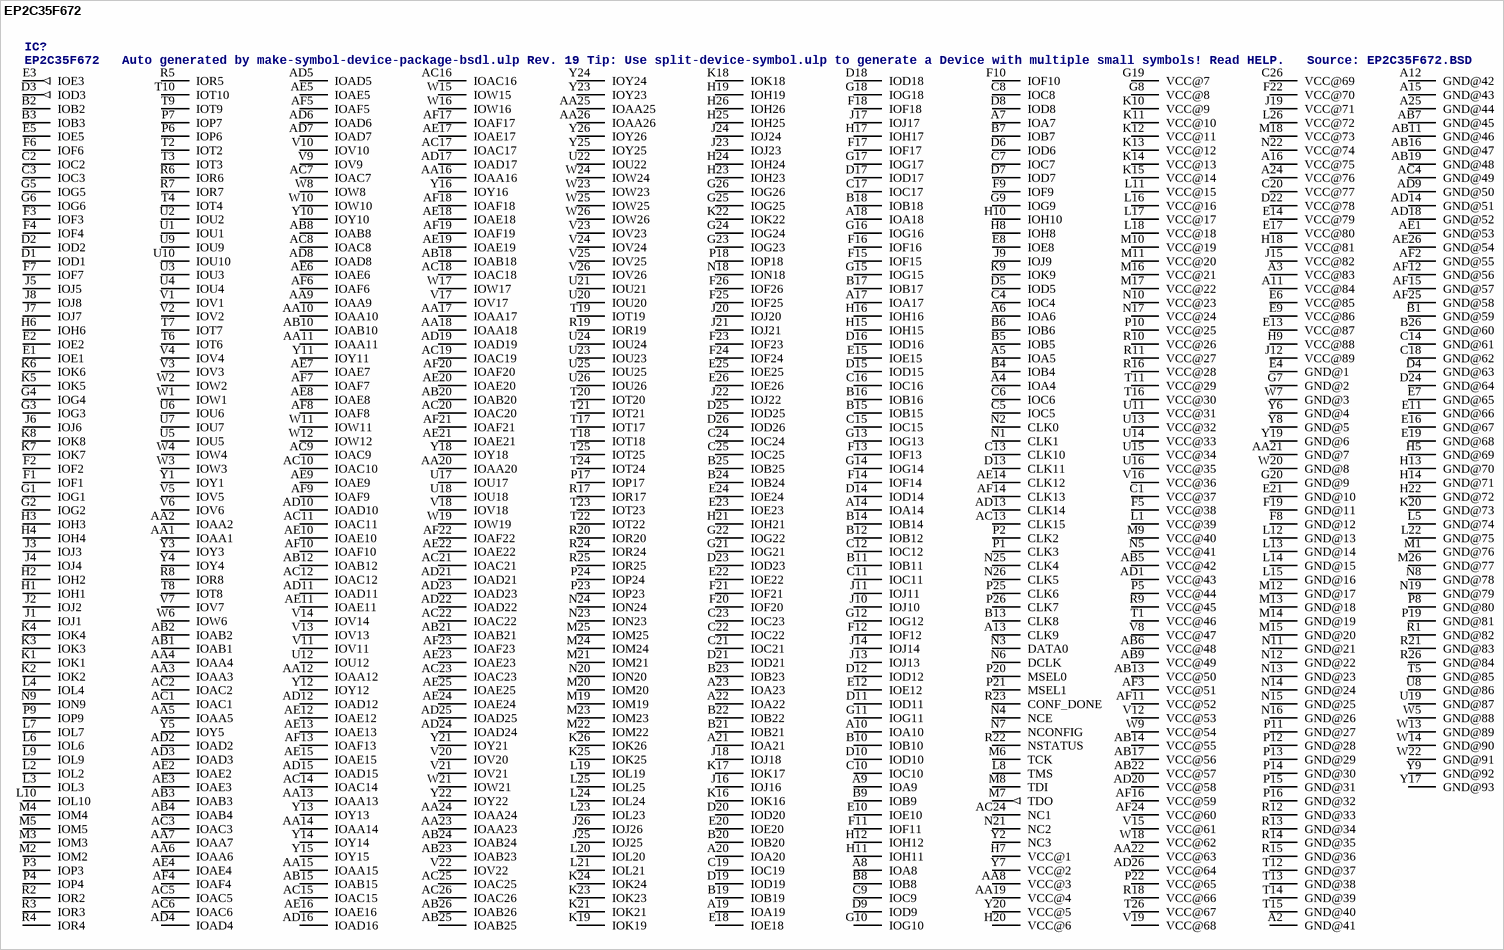
[diagram p16: symbol EP2C35F672]

## EP2C35F672
designator IC?, comment EP2C35F672   Auto generated by make-symbol-device-package-bsdl.ulp Rev. 19 Tip: Use split-device-symbol.ulp to generate a Device with multiple small symbols! Read HELP.   Source: EP2C35F672.BSD
MPN: EP2C35F672C8N; OC_FARNELL: 1635087; OC_NEWARK: 51R0564
footprint FBGA672
pins: A2 GND@41 (power), A3 VCC@83 (power), A4 IOA4, A5 IOA5, A6 IOA6, A7 IOA7, A8 IOA8, A9 IOA9, A10 IOA10, A11 VCC@84 (power), A12 GND@42 (power), A13 CLK9, A14 IOA14, A15 GND@43 (power), A16 VCC@75 (power), A17 IOA17, A18 IOA18, A19 IOA19, A20 IOA20, A21 IOA21, A22 IOA22, A23 IOA23, A24 VCC@76 (power), A25 GND@44 (power), AA1 IOAA1, AA2 IOAA2, AA3 IOAA3, AA4 IOAA4, AA5 IOAA5, AA6 IOAA6, AA7 IOAA7, AA8 VCC@3 (power), AA9 IOAA9, AA10 IOAA10, AA11 IOAA11, AA12 IOAA12, AA13 IOAA13, AA14 IOAA14, AA15 IOAA15, AA16 IOAA16, AA17 IOAA17, AA18 IOAA18, AA19 VCC@4 (power), AA20 IOAA20, AA21 GND@7 (power), AA22 VCC@63 (power), AA23 IOAA23, AA24 IOAA24, AA25 IOAA25, AA26 IOAA26, AB1 IOAB1, AB2 IOAB2, AB3 IOAB3, AB4 IOAB4, AB5 VCC@42 (power), AB6 VCC@48 (power), AB7 GND@45 (power), AB8 IOAB8, AB9 VCC@49 (power), AB10 IOAB10, AB11 GND@46 (power), AB12 IOAB12, AB13 VCC@50 (power), AB14 VCC@55 (power), AB15 IOAB15, AB16 GND@47 (power), AB17 VCC@56 (power), AB18 IOAB18, AB19 GND@48 (power), AB20 IOAB20, AB21 IOAB21, AB22 VCC@57 (power), AB23 IOAB23, AB24 IOAB24, AB25 IOAB25, AB26 IOAB26, AC1 IOAC1, AC2 IOAC2, AC3 IOAC3, AC4 GND@49 (power), AC5 IOAC5, AC6 IOAC6, AC7 IOAC7, AC8 IOAC8, AC9 IOAC9, AC10 IOAC10, AC11 IOAC11, AC12 IOAC12, AC13 CLK15, AC14 IOAC14, AC15 IOAC15, AC16 IOAC16, AC17 IOAC17, AC18 IOAC18, AC19 IOAC19, AC20 IOAC20, AC21 IOAC21, AC22 IOAC22, AC23 IOAC23, AC24 NC1, AC25 IOAC25, AC26 IOAC26, AD1 VCC@43 (power), AD2 IOAD2, AD3 IOAD3, AD4 IOAD4, AD5 IOAD5, AD6 IOAD6, AD7 IOAD7, AD8 IOAD8, AD9 GND@50 (power), AD10 IOAD10, AD11 IOAD11, AD12 IOAD12, AD13 CLK14, AD14 GND@51 (power), AD15 IOAD15, AD16 IOAD16, AD17 IOAD17, AD18 GND@52 (power), AD19 IOAD19, AD20 VCC@58 (power), AD21 IOAD21, AD22 IOAD22, AD23 IOAD23, AD24 IOAD24, AD25 IOAD25, AD26 VCC@64 (power), AE1 GND@53 (power), AE2 IOAE2, AE3 IOAE3, AE4 IOAE4, AE5 IOAE5, AE6 IOAE6, AE7 IOAE7, AE8 IOAE8, AE9 IOAE9, AE10 IOAE10, AE11 IOAE11, AE12 IOAE12, AE13 IOAE13, AE14 CLK12, AE15 IOAE15, AE16 IOAE16, AE17 IOAE17, AE18 IOAE18, AE19 IOAE19, AE20 IOAE20, AE21 IOAE21, AE22 IOAE22, AE23 IOAE23, AE24 IOAE24, AE25 IOAE25, AE26 GND@54 (power), AF2 GND@55 (power), AF3 VCC@51 (power), AF4 IOAF4, AF5 IOAF5, AF6 IOAF6, AF7 IOAF7, AF8 IOAF8, AF9 IOAF9, AF10 IOAF10, AF11 VCC@52 (power), AF12 GND@56 (power), AF13 IOAF13, AF14 CLK13, AF15 GND@57 (power), AF16 VCC@59 (power), AF17 IOAF17, AF18 IOAF18, AF19 IOAF19, AF20 IOAF20, AF21 IOAF21, AF22 IOAF22, AF23 IOAF23, AF24 VCC@60 (power), AF25 GND@58 (power), B1 GND@59 (power), B2 IOB2, B3 IOB3, B4 IOB4, B5 IOB5, B6 IOB6, B7 IOB7, B8 IOB8, B9 IOB9, B10 IOB10, B11 IOB11, B12 IOB12, B13 CLK8, B14 IOB14, B15 IOB15, B16 IOB16, B17 IOB17, B18 IOB18, B19 IOB19, B20 IOB20, B21 IOB21, B22 IOB22, B23 IOB23, B24 IOB24, B25 IOB25, B26 GND@60 (power), C1 VCC@37 (power), C2 IOC2, C3 IOC3, C4 IOC4, C5 IOC5, C6 IOC6, C7 IOC7, C8 IOC8, C9 IOC9, C10 IOC10, C11 IOC11, C12 IOC12, C13 CLK10, C14 GND@61 (power), C15 IOC15, C16 IOC16, C17 IOC17, C18 GND@62 (power), C19 IOC19, C20 VCC@77 (power), C21 IOC21, C22 IOC22, C23 IOC23, C24 IOC24, C25 IOC25, C26 VCC@69 (power), D1 IOD1, D2 IOD2, D3 IOD3 (out), D4 GND@63 (power), D5 IOD5, D6 IOD6, D7 IOD7, D8 IOD8, D9 IOD9, D10 IOD10, D11 IOD11, D12 IOD12, D13 CLK11, D14 IOD14, D15 IOD15, D16 IOD16, D17 IOD17, D18 IOD18, D19 IOD19, D20 IOD20, D21 IOD21, D22 VCC@78 (power), D23 IOD23, D24 GND@64 (power), D25 IOD25, D26 IOD26, E1 IOE1, E2 IOE2, E3 IOE3 (out), E4 GND@1 (power), E5 IOE5, E6 VCC@85 (power), E7 GND@65 (power), E8 IOE8, E9 VCC@86 (power), E10 IOE10, E11 GND@66 (power), E12 IOE12, E13 VCC@87 (power), E14 VCC@79 (power), E15 IOE15, E16 GND@67 (power), E17 VCC@80 (power), E18 IOE18, E19 GND@68 (power), E20 IOE20, E21 GND@10 (power), E22 IOE22, E23 IOE23, E24 IOE24, E25 IOE25, E26 IOE26, F1 IOF1, F2 IOF2, F3 IOF3, F4 IOF4, F5 VCC@38 (power), F6 IOF6, F7 IOF7, F8 GND@12 (power), F9 IOF9, F10 IOF10, F11 IOF11, F12 IOF12, F13 IOF13, F14 IOF14, F15 IOF15, F16 IOF16, F17 IOF17, F18 IOF18, F19 GND@11 (power), F20 IOF20, F21 IOF21, F22 VCC@70 (power), F23 IOF23, F24 IOF24, F25 IOF25, F26 IOF26, G1 IOG1, G2 IOG2, G3 IOG3, G4 IOG4, G5 IOG5, G6 IOG6, G7 GND@2 (power), G8 VCC@8 (power), G9 IOG9, G10 IOG10, G11 IOG11, G12 IOG12, G13 IOG13, G14 IOG14, G15 IOG15, G16 IOG16, G17 IOG17, G18 IOG18, G19 VCC@7 (power), G20 GND@9 (power), G21 IOG21, G22 IOG22, G23 IOG23, G24 IOG24, G25 IOG25, G26 IOG26, H1 IOH1, H2 IOH2, H3 IOH3, H4 IOH4, H5 GND@69 (power), H6 IOH6, H7 VCC@1 (power), H8 IOH8, H9 VCC@88 (power), H10 IOH10, H11 IOH11, H12 IOH12, H13 GND@70 (power), H14 GND@71 (power), H15 IOH15, H16 IOH16, H17 IOH17, H18 VCC@81 (power), H19 IOH19, H20 VCC@6 (power), H21 IOH21, H22 GND@72 (power), H23 IOH23, H24 IOH24, H25 IOH25, H26 IOH26, J1 IOJ1, J2 IOJ2, J3 IOJ3, J4 IOJ4, J5 IOJ5, J6 IOJ6, J7 IOJ7, J8 IOJ8, J9 IOJ9, J10 IOJ10, J11 IOJ11, J12 VCC@89 (power), J13 IOJ13, J14 IOJ14, J15 VCC@82 (power), J16 IOJ16, J17 IOJ17, J18 IOJ18, J19 VCC@71 (power), J20 IOJ20, J21 IOJ21, J22 IOJ22, J23 IOJ23, J24 IOJ24, J25 IOJ25, J26 IOJ26, K1 IOK1, K2 IOK2, K3 IOK3, K4 IOK4, K5 IOK5, K6 IOK6, K7 IOK7, K8 IOK8, K9 IOK9, K10 VCC@9 (power), K11 VCC@10 (power), K12 VCC@11 (power), K13 VCC@12 (power), K14 VCC@13 (power), K15 VCC@14 (power), K16 IOK16, K17 IOK17, K18 IOK18, K19 IOK19, K20 GND@73 (power), K21 IOK21, K22 IOK22, K23 IOK23, K24 IOK24, K25 IOK25, K26 IOK26, L1 VCC@39 (power), L2 IOL2, L3 IOL3, L4 IOL4, L5 GND@74 (power), L6 IOL6, L7 IOL7, L8 TMS, L9 IOL9, L10 IOL10, L11 VCC@15 (power), L12 GND@13 (power), L13 GND@14 (power), L14 GND@15 (power), L15 GND@16 (power), L16 VCC@16 (power), L17 VCC@17 (power), L18 VCC@18 (power), L19 IOL19, L20 IOL20, L21 IOL21, L22 GND@75 (power), L23 IOL23, L24 IOL24, L25 IOL25, L26 VCC@72 (power), M1 GND@76 (power), M2 IOM2, M3 IOM3, M4 IOM4, M5 IOM5, M6 TCK, M7 TDO (out), M8 TDI, M9 VCC@40 (power), M10 VCC@19 (power), M11 VCC@20 (power), M12 GND@17 (power), M13 GND@18 (power), M14 GND@19 (power), M15 GND@20 (power), M16 VCC@21 (power), M17 VCC@22 (power), M18 VCC@73 (power), M19 IOM19, M20 IOM20, M21 IOM21, M22 IOM22, M23 IOM23, M24 IOM24, M25 IOM25, M26 GND@77 (power), N1 CLK1, N2 CLK0, N3 DATA0, N4 NCE, N5 VCC@41 (power), N6 DCLK, N7 NCONFIG, N8 GND@78 (power), N9 ION9, N10 VCC@23 (power), N11 GND@21 (power), N12 GND@22 (power), N13 GND@23 (power), N14 GND@24 (power), N15 GND@25 (power), N16 GND@26 (power), N17 VCC@24 (power), N18 ION18, N19 GND@79 (power), N20 ION20, N21 NC2, N22 VCC@74 (power), N23 ION23, N24 ION24, N25 CLK4, N26 CLK5, P1 CLK3, P2 CLK2, P3 IOP3, P4 IOP4, P5 VCC@44 (power), P6 IOP6, P7 IOP7, P8 GND@80 (power), P9 IOP9, P10 VCC@25 (power), P11 GND@27 (power), P12 GND@28 (power), P13 GND@29 (power), P14 GND@30 (power), P15 GND@31 (power), P16 GND@32 (power), P17 IOP17, P18 IOP18, P19 GND@81 (power), P20 MSEL0, P21 MSEL1, P22 VCC@65 (power), P23 IOP23, P24 IOP24, P25 CLK6, P26 CLK7, R1 GND@82 (power), R2 IOR2, R3 IOR3, R4 IOR4, R5 IOR5, R6 IOR6, R7 IOR7, R8 IOR8, R9 VCC@45 (power), R10 VCC@26 (power), R11 VCC@27 (power), R12 GND@33 (power), R13 GND@34 (power), R14 GND@35 (power), R15 GND@36 (power), R16 VCC@28 (power), R17 IOR17, R18 VCC@66 (power), R19 IOR19, R20 IOR20, R21 GND@83 (power), R22 NSTATUS, R23 CONF_DONE, R24 IOR24, R25 IOR25, R26 GND@84 (power), T1 VCC@46 (power), T2 IOT2, T3 IOT3, T4 IOT4, T5 GND@85 (power), T6 IOT6, T7 IOT7, T8 IOT8, T9 IOT9, T10 IOT10, T11 VCC@29 (power), T12 GND@37 (power), T13 GND@38 (power), T14 GND@39 (power), T15 GND@40 (power), T16 VCC@30 (power), T17 IOT17, T18 IOT18, T19 IOT19, T20 IOT20, T21 IOT21, T22 IOT22, T23 IOT23, T24 IOT24, T25 IOT25, T26 VCC@67 (power), U1 IOU1, U2 IOU2, U3 IOU3, U4 IOU4, U5 IOU5, U6 IOU6, U7 IOU7, U8 GND@86 (power), U9 IOU9, U10 IOU10, U11 VCC@31 (power), U12 IOU12, U13 VCC@32 (power), U14 VCC@33 (power), U15 VCC@34 (power), U16 VCC@35 (power), U17 IOU17, U18 IOU18, U19 GND@87 (power), U20 IOU20, U21 IOU21, U22 IOU22, U23 IOU23, U24 IOU24, U25 IOU25, U26 IOU26, V1 IOV1, V2 IOV2, V3 IOV3, V4 IOV4, V5 IOV5, V6 IOV6, V7 IOV7, V8 VCC@47 (power), V9 IOV9, V10 IOV10, V11 IOV11, V12 VCC@53 (power), V13 IOV13, V14 IOV14, V15 VCC@61 (power), V16 VCC@36 (power), V17 IOV17, V18 IOV18, V19 VCC@68 (power), V20 IOV20, V21 IOV21, V22 IOV22, V23 IOV23, V24 IOV24, V25 IOV25, V26 IOV26, W1 IOW1, W2 IOW2, W3 IOW3, W4 IOW4, W5 GND@88 (power), W6 IOW6, W7 GND@3 (power), W8 IOW8, W9 VCC@54 (power), W10 IOW10, W11 IOW11, W12 IOW12, W13 GND@89 (power), W14 GND@90 (power), W15 IOW15, W16 IOW16, W17 IOW17, W18 VCC@62 (power), W19 IOW19, W20 GND@8 (power), W21 IOW21, W22 GND@91 (power), W23 IOW23, W24 IOW24, W25 IOW25, W26 IOW26, Y1 IOY1, Y2 NC3, Y3 IOY3, Y4 IOY4, Y5 IOY5, Y6 GND@4 (power), Y7 VCC@2 (power), Y8 GND@5 (power), Y9 GND@92 (power), Y10 IOY10, Y11 IOY11, Y12 IOY12, Y13 IOY13, Y14 IOY14, Y15 IOY15, Y16 IOY16, Y17 GND@93 (power), Y18 IOY18, Y19 GND@6 (power), Y20 VCC@5 (power), Y21 IOY21, Y22 IOY22, Y23 IOY23, Y24 IOY24, Y25 IOY25, Y26 IOY26

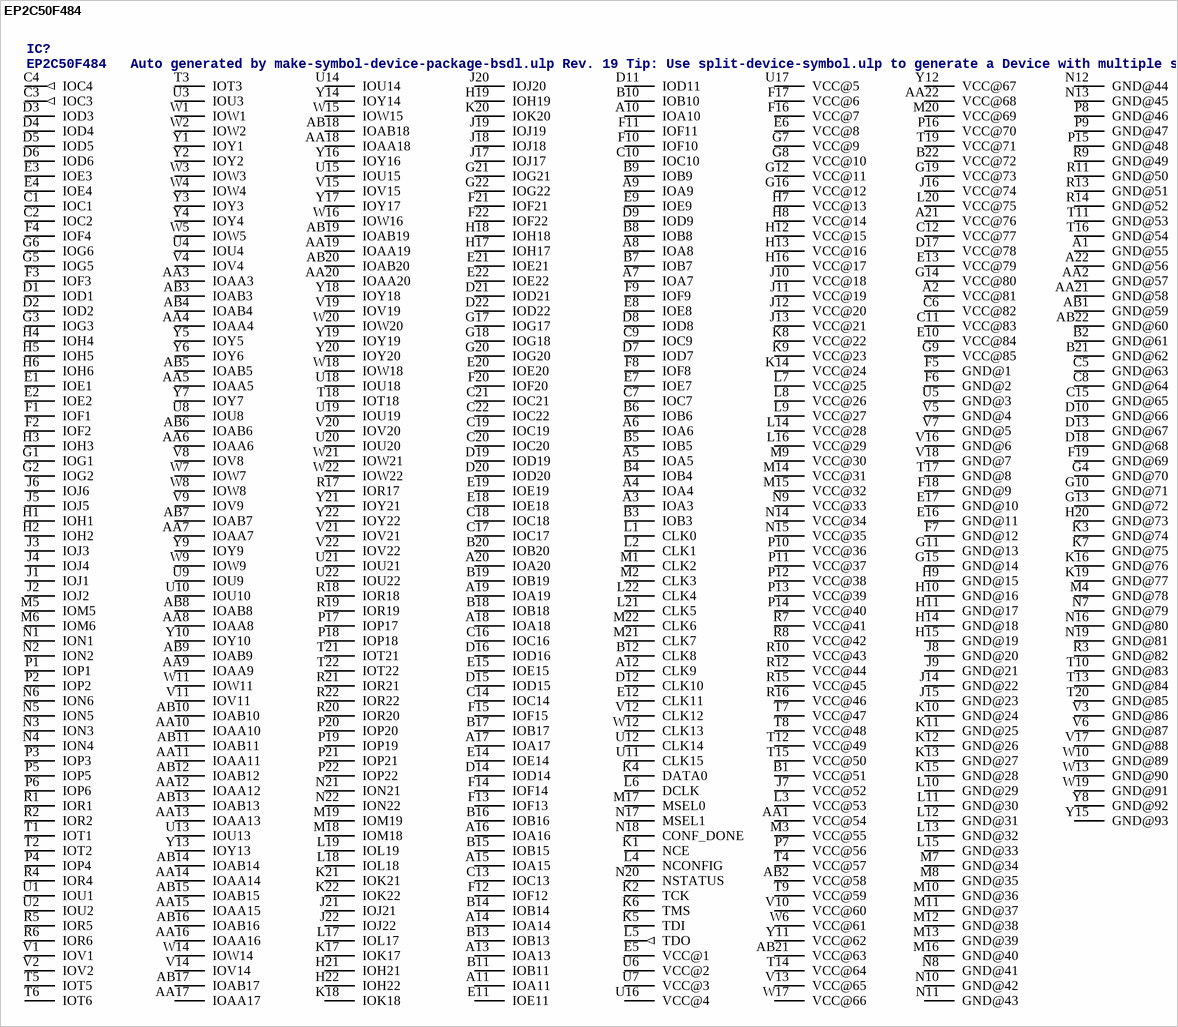
[diagram p17: symbol EP2C50F484]

## EP2C50F484
designator IC?, comment EP2C50F484   Auto generated by make-symbol-device-package-bsdl.ulp Rev. 19 Tip: Use split-device-symbol.ulp to generate a Device with multiple small symbols! Read HELP.   Source: EP2C50F484.BSD
MPN: EP2C50F484C8N; OC_FARNELL: 1549358; OC_NEWARK: 51R0569
footprint FBGA484
pins: A1 GND@55 (power), A2 VCC@81 (power), A3 IOA3, A4 IOA4, A5 IOA5, A6 IOA6, A7 IOA7, A8 IOA8, A9 IOA9, A10 IOA10, A11 IOA11, A12 CLK9, A13 IOA13, A14 IOA14, A15 IOA15, A16 IOA16, A17 IOA17, A18 IOA18, A19 IOA19, A20 IOA20, A21 VCC@76 (power), A22 GND@56 (power), AA1 VCC@54 (power), AA2 GND@57 (power), AA3 IOAA3, AA4 IOAA4, AA5 IOAA5, AA6 IOAA6, AA7 IOAA7, AA8 IOAA8, AA9 IOAA9, AA10 IOAA10, AA11 IOAA11, AA12 IOAA12, AA13 IOAA13, AA14 IOAA14, AA15 IOAA15, AA16 IOAA16, AA17 IOAA17, AA18 IOAA18, AA19 IOAA19, AA20 IOAA20, AA21 GND@58 (power), AA22 VCC@68 (power), AB1 GND@59 (power), AB2 VCC@58 (power), AB3 IOAB3, AB4 IOAB4, AB5 IOAB5, AB6 IOAB6, AB7 IOAB7, AB8 IOAB8, AB9 IOAB9, AB10 IOAB10, AB11 IOAB11, AB12 IOAB12, AB13 IOAB13, AB14 IOAB14, AB15 IOAB15, AB16 IOAB16, AB17 IOAB17, AB18 IOAB18, AB19 IOAB19, AB20 IOAB20, AB21 VCC@63 (power), AB22 GND@60 (power), B1 VCC@51 (power), B2 GND@61 (power), B3 IOB3, B4 IOB4, B5 IOB5, B6 IOB6, B7 IOB7, B8 IOB8, B9 IOB9, B10 IOB10, B11 IOB11, B12 CLK8, B13 IOB13, B14 IOB14, B15 IOB15, B16 IOB16, B17 IOB17, B18 IOB18, B19 IOB19, B20 IOB20, B21 GND@62 (power), B22 VCC@72 (power), C1 IOC1, C2 IOC2, C3 IOC3 (out), C4 IOC4 (out), C5 GND@63 (power), C6 VCC@82 (power), C7 IOC7, C8 GND@64 (power), C9 IOC9, C10 IOC10, C11 VCC@83 (power), C12 VCC@77 (power), C13 IOC13, C14 IOC14, C15 GND@65 (power), C16 IOC16, C17 IOC17, C18 IOC18, C19 IOC19, C20 IOC20, C21 IOC21, C22 IOC22, D1 IOD1, D2 IOD2, D3 IOD3, D4 IOD4, D5 IOD5, D6 IOD6, D7 IOD7, D8 IOD8, D9 IOD9, D10 GND@66 (power), D11 IOD11, D12 CLK10, D13 GND@67 (power), D14 IOD14, D15 IOD15, D16 IOD16, D17 VCC@78 (power), D18 GND@68 (power), D19 IOD19, D20 IOD20, D21 IOD21, D22 IOD22, E1 IOE1, E2 IOE2, E3 IOE3, E4 IOE4, E5 VCC@1 (power), E6 VCC@8 (power), E7 IOE7, E8 IOE8, E9 IOE9, E10 VCC@84 (power), E11 IOE11, E12 CLK11, E13 VCC@79 (power), E14 IOE14, E15 IOE15, E16 GND@11 (power), E17 GND@10 (power), E18 IOE18, E19 IOE19, E20 IOE20, E21 IOE21, E22 IOE22, F1 IOF1, F2 IOF2, F3 IOF3, F4 IOF4, F5 GND@1 (power), F6 GND@2 (power), F7 GND@12 (power), F8 IOF8, F9 IOF9, F10 IOF10, F11 IOF11, F12 IOF12, F13 IOF13, F14 IOF14, F15 IOF15, F16 VCC@7 (power), F17 VCC@6 (power), F18 GND@9 (power), F19 GND@69 (power), F20 IOF20, F21 IOF21, F22 IOF22, G1 IOG1, G2 IOG2, G3 IOG3, G4 GND@70 (power), G5 IOG5, G6 IOG6, G7 VCC@9 (power), G8 VCC@10 (power), G9 VCC@85 (power), G10 GND@71 (power), G11 GND@13 (power), G12 VCC@11 (power), G13 GND@72 (power), G14 VCC@80 (power), G15 GND@14 (power), G16 VCC@12 (power), G17 IOG17, G18 IOG18, G19 VCC@73 (power), G20 IOG20, G21 IOG21, G22 IOG22, H1 IOH1, H2 IOH2, H3 IOH3, H4 IOH4, H5 IOH5, H6 IOH6, H7 VCC@13 (power), H8 VCC@14 (power), H9 GND@15 (power), H10 GND@16 (power), H11 GND@17 (power), H12 VCC@15 (power), H13 VCC@16 (power), H14 GND@18 (power), H15 GND@19 (power), H16 VCC@17 (power), H17 IOH17, H18 IOH18, H19 IOH19, H20 GND@73 (power), H21 IOH21, H22 IOH22, J1 IOJ1, J2 IOJ2, J3 IOJ3, J4 IOJ4, J5 IOJ5, J6 IOJ6, J7 VCC@52 (power), J8 GND@20 (power), J9 GND@21 (power), J10 VCC@18 (power), J11 VCC@19 (power), J12 VCC@20 (power), J13 VCC@21 (power), J14 GND@22 (power), J15 GND@23 (power), J16 VCC@74 (power), J17 IOJ17, J18 IOJ18, J19 IOJ19, J20 IOJ20, J21 IOJ21, J22 IOJ22, K1 NCE, K2 TCK, K3 GND@74 (power), K4 DATA0, K5 TDI, K6 TMS, K7 GND@75 (power), K8 VCC@22 (power), K9 VCC@23 (power), K10 GND@24 (power), K11 GND@25 (power), K12 GND@26 (power), K13 GND@27 (power), K14 VCC@24 (power), K15 GND@28 (power), K16 GND@76 (power), K17 IOK17, K18 IOK18, K19 GND@77 (power), K20 IOK20, K21 IOK21, K22 IOK22, L1 CLK0, L2 CLK1, L3 VCC@53 (power), L4 NCONFIG, L5 TDO (out), L6 DCLK, L7 VCC@25 (power), L8 VCC@26 (power), L9 VCC@27 (power), L10 GND@29 (power), L11 GND@30 (power), L12 GND@31 (power), L13 GND@32 (power), L14 VCC@28 (power), L15 GND@33 (power), L16 VCC@29 (power), L17 IOL17, L18 IOL18, L19 IOL19, L20 VCC@75 (power), L21 CLK5, L22 CLK4, M1 CLK2, M2 CLK3, M3 VCC@55 (power), M4 GND@78 (power), M5 IOM5, M6 IOM6, M7 GND@34 (power), M8 GND@35 (power), M9 VCC@30 (power), M10 GND@36 (power), M11 GND@37 (power), M12 GND@38 (power), M13 GND@39 (power), M14 VCC@31 (power), M15 VCC@32 (power), M16 GND@40 (power), M17 MSEL0, M18 IOM18, M19 IOM19, M20 VCC@69 (power), M21 CLK7, M22 CLK6, N1 ION1, N2 ION2, N3 ION3, N4 ION4, N5 ION5, N6 ION6, N7 GND@79 (power), N8 GND@41 (power), N9 VCC@33 (power), N10 GND@42 (power), N11 GND@43 (power), N12 GND@44 (power), N13 GND@45 (power), N14 VCC@34 (power), N15 VCC@35 (power), N16 GND@80 (power), N17 MSEL1, N18 CONF_DONE, N19 GND@81 (power), N20 NSTATUS, N21 ION21, N22 ION22, P1 IOP1, P2 IOP2, P3 IOP3, P4 IOP4, P5 IOP5, P6 IOP6, P7 VCC@56 (power), P8 GND@46 (power), P9 GND@47 (power), P10 VCC@36 (power), P11 VCC@37 (power), P12 VCC@38 (power), P13 VCC@39 (power), P14 VCC@40 (power), P15 GND@48 (power), P16 VCC@70 (power), P17 IOP17, P18 IOP18, P19 IOP19, P20 IOP20, P21 IOP21, P22 IOP22, R1 IOR1, R2 IOR2, R3 GND@82 (power), R4 IOR4, R5 IOR5, R6 IOR6, R7 VCC@41 (power), R8 VCC@42 (power), R9 GND@49 (power), R10 VCC@43 (power), R11 GND@50 (power), R12 VCC@44 (power), R13 GND@51 (power), R14 GND@52 (power), R15 VCC@45 (power), R16 VCC@46 (power), R17 IOR17, R18 IOR18, R19 IOR19, R20 IOR20, R21 IOR21, R22 IOR22, T1 IOT1, T2 IOT2, T3 IOT3, T4 VCC@57 (power), T5 IOT5, T6 IOT6, T7 VCC@47 (power), T8 VCC@48 (power), T9 VCC@59 (power), T10 GND@83 (power), T11 GND@53 (power), T12 VCC@49 (power), T13 GND@84 (power), T14 VCC@64 (power), T15 VCC@50 (power), T16 GND@54 (power), T17 GND@8 (power), T18 IOT18, T19 VCC@71 (power), T20 GND@85 (power), T21 IOT21, T22 IOT22, U1 IOU1, U2 IOU2, U3 IOU3, U4 IOU4, U5 GND@3 (power), U6 VCC@2 (power), U7 VCC@3 (power), U8 IOU8, U9 IOU9, U10 IOU10, U11 CLK15, U12 CLK14, U13 IOU13, U14 IOU14, U15 IOU15, U16 VCC@4 (power), U17 VCC@5 (power), U18 IOU18, U19 IOU19, U20 IOU20, U21 IOU21, U22 IOU22, V1 IOV1, V2 IOV2, V3 GND@86 (power), V4 IOV4, V5 GND@4 (power), V6 GND@87 (power), V7 GND@5 (power), V8 IOV8, V9 IOV9, V10 VCC@60 (power), V11 IOV11, V12 CLK12, V13 VCC@65 (power), V14 IOV14, V15 IOV15, V16 GND@6 (power), V17 GND@88 (power), V18 GND@7 (power), V19 IOV19, V20 IOV20, V21 IOV21, V22 IOV22, W1 IOW1, W2 IOW2, W3 IOW3, W4 IOW4, W5 IOW5, W6 VCC@61 (power), W7 IOW7, W8 IOW8, W9 IOW9, W10 GND@89 (power), W11 IOW11, W12 CLK13, W13 GND@90 (power), W14 IOW14, W15 IOW15, W16 IOW16, W17 VCC@66 (power), W18 IOW18, W19 GND@91 (power), W20 IOW20, W21 IOW21, W22 IOW22, Y1 IOY1, Y2 IOY2, Y3 IOY3, Y4 IOY4, Y5 IOY5, Y6 IOY6, Y7 IOY7, Y8 GND@92 (power), Y9 IOY9, Y10 IOY10, Y11 VCC@62 (power), Y12 VCC@67 (power), Y13 IOY13, Y14 IOY14, Y15 GND@93 (power), Y16 IOY16, Y17 IOY17, Y18 IOY18, Y19 IOY19, Y20 IOY20, Y21 IOY21, Y22 IOY22

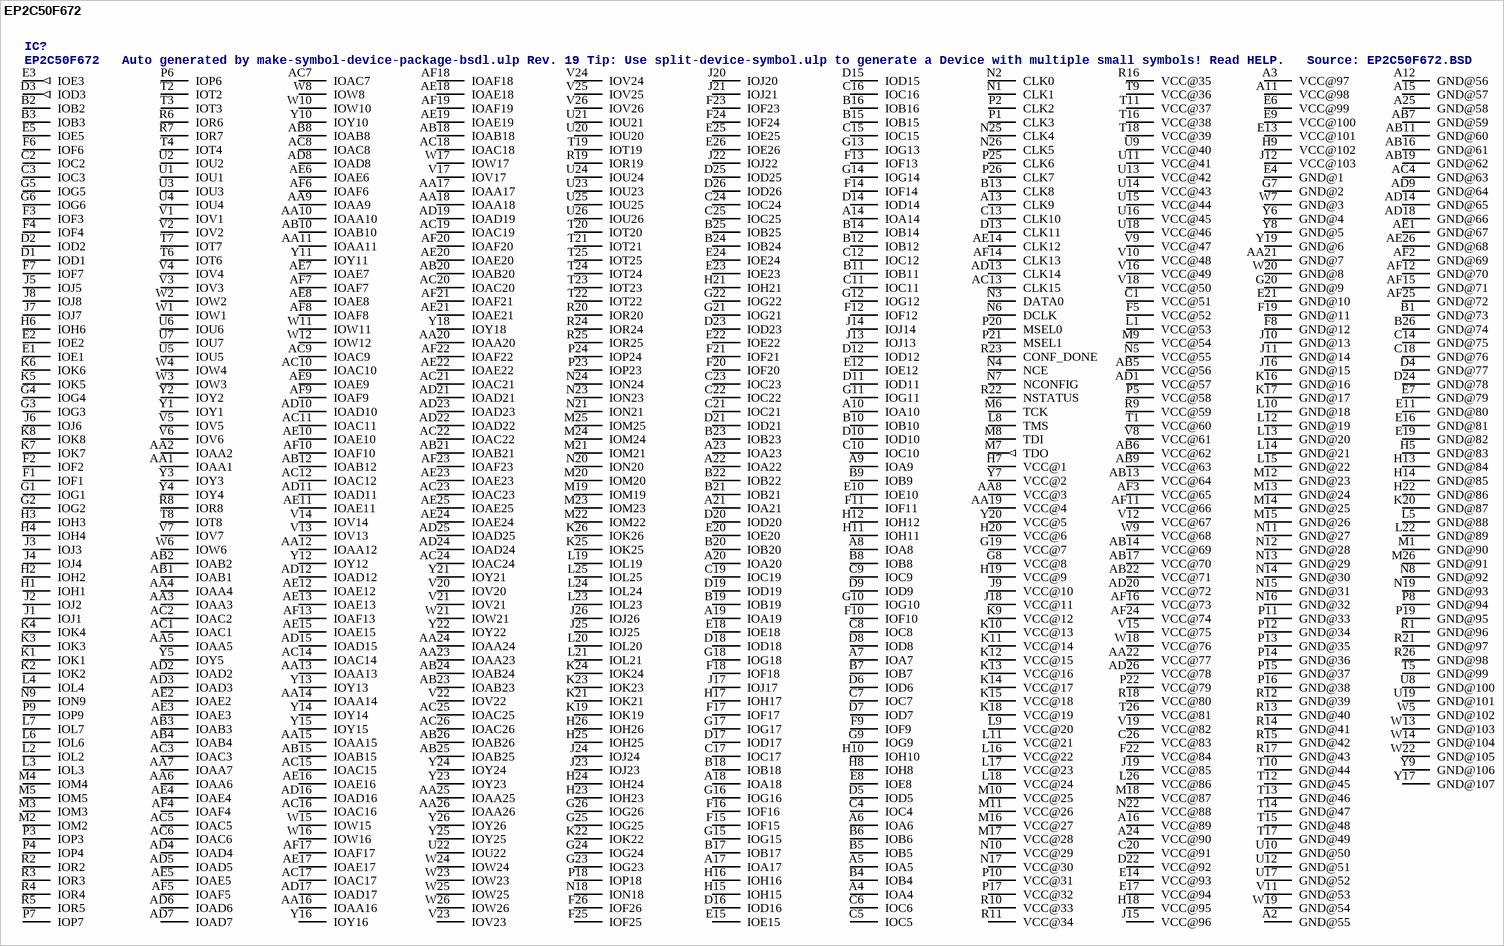
[diagram p18: symbol EP2C50F672]

## EP2C50F672
designator IC?, comment EP2C50F672   Auto generated by make-symbol-device-package-bsdl.ulp Rev. 19 Tip: Use split-device-symbol.ulp to generate a Device with multiple small symbols! Read HELP.   Source: EP2C50F672.BSD
MPN: EP2C50F672C8N; OC_FARNELL: 1635090; OC_NEWARK: 51R0570
footprint FBGA672
pins: A2 GND@55 (power), A3 VCC@97 (power), A4 IOA4, A5 IOA5, A6 IOA6, A7 IOA7, A8 IOA8, A9 IOA9, A10 IOA10, A11 VCC@98 (power), A12 GND@56 (power), A13 CLK9, A14 IOA14, A15 GND@57 (power), A16 VCC@89 (power), A17 IOA17, A18 IOA18, A19 IOA19, A20 IOA20, A21 IOA21, A22 IOA22, A23 IOA23, A24 VCC@90 (power), A25 GND@58 (power), AA1 IOAA1, AA2 IOAA2, AA3 IOAA3, AA4 IOAA4, AA5 IOAA5, AA6 IOAA6, AA7 IOAA7, AA8 VCC@3 (power), AA9 IOAA9, AA10 IOAA10, AA11 IOAA11, AA12 IOAA12, AA13 IOAA13, AA14 IOAA14, AA15 IOAA15, AA16 IOAA16, AA17 IOAA17, AA18 IOAA18, AA19 VCC@4 (power), AA20 IOAA20, AA21 GND@7 (power), AA22 VCC@77 (power), AA23 IOAA23, AA24 IOAA24, AA25 IOAA25, AA26 IOAA26, AB1 IOAB1, AB2 IOAB2, AB3 IOAB3, AB4 IOAB4, AB5 VCC@56 (power), AB6 VCC@62 (power), AB7 GND@59 (power), AB8 IOAB8, AB9 VCC@63 (power), AB10 IOAB10, AB11 GND@60 (power), AB12 IOAB12, AB13 VCC@64 (power), AB14 VCC@69 (power), AB15 IOAB15, AB16 GND@61 (power), AB17 VCC@70 (power), AB18 IOAB18, AB19 GND@62 (power), AB20 IOAB20, AB21 IOAB21, AB22 VCC@71 (power), AB23 IOAB23, AB24 IOAB24, AB25 IOAB25, AB26 IOAB26, AC1 IOAC1, AC2 IOAC2, AC3 IOAC3, AC4 GND@63 (power), AC5 IOAC5, AC6 IOAC6, AC7 IOAC7, AC8 IOAC8, AC9 IOAC9, AC10 IOAC10, AC11 IOAC11, AC12 IOAC12, AC13 CLK15, AC14 IOAC14, AC15 IOAC15, AC16 IOAC16, AC17 IOAC17, AC18 IOAC18, AC19 IOAC19, AC20 IOAC20, AC21 IOAC21, AC22 IOAC22, AC23 IOAC23, AC24 IOAC24, AC25 IOAC25, AC26 IOAC26, AD1 VCC@57 (power), AD2 IOAD2, AD3 IOAD3, AD4 IOAD4, AD5 IOAD5, AD6 IOAD6, AD7 IOAD7, AD8 IOAD8, AD9 GND@64 (power), AD10 IOAD10, AD11 IOAD11, AD12 IOAD12, AD13 CLK14, AD14 GND@65 (power), AD15 IOAD15, AD16 IOAD16, AD17 IOAD17, AD18 GND@66 (power), AD19 IOAD19, AD20 VCC@72 (power), AD21 IOAD21, AD22 IOAD22, AD23 IOAD23, AD24 IOAD24, AD25 IOAD25, AD26 VCC@78 (power), AE1 GND@67 (power), AE2 IOAE2, AE3 IOAE3, AE4 IOAE4, AE5 IOAE5, AE6 IOAE6, AE7 IOAE7, AE8 IOAE8, AE9 IOAE9, AE10 IOAE10, AE11 IOAE11, AE12 IOAE12, AE13 IOAE13, AE14 CLK12, AE15 IOAE15, AE16 IOAE16, AE17 IOAE17, AE18 IOAE18, AE19 IOAE19, AE20 IOAE20, AE21 IOAE21, AE22 IOAE22, AE23 IOAE23, AE24 IOAE24, AE25 IOAE25, AE26 GND@68 (power), AF2 GND@69 (power), AF3 VCC@65 (power), AF4 IOAF4, AF5 IOAF5, AF6 IOAF6, AF7 IOAF7, AF8 IOAF8, AF9 IOAF9, AF10 IOAF10, AF11 VCC@66 (power), AF12 GND@70 (power), AF13 IOAF13, AF14 CLK13, AF15 GND@71 (power), AF16 VCC@73 (power), AF17 IOAF17, AF18 IOAF18, AF19 IOAF19, AF20 IOAF20, AF21 IOAF21, AF22 IOAF22, AF23 IOAF23, AF24 VCC@74 (power), AF25 GND@72 (power), B1 GND@73 (power), B2 IOB2, B3 IOB3, B4 IOB4, B5 IOB5, B6 IOB6, B7 IOB7, B8 IOB8, B9 IOB9, B10 IOB10, B11 IOB11, B12 IOB12, B13 CLK8, B14 IOB14, B15 IOB15, B16 IOB16, B17 IOB17, B18 IOB18, B19 IOB19, B20 IOB20, B21 IOB21, B22 IOB22, B23 IOB23, B24 IOB24, B25 IOB25, B26 GND@74 (power), C1 VCC@51 (power), C2 IOC2, C3 IOC3, C4 IOC4, C5 IOC5, C6 IOC6, C7 IOC7, C8 IOC8, C9 IOC9, C10 IOC10, C11 IOC11, C12 IOC12, C13 CLK10, C14 GND@75 (power), C15 IOC15, C16 IOC16, C17 IOC17, C18 GND@76 (power), C19 IOC19, C20 VCC@91 (power), C21 IOC21, C22 IOC22, C23 IOC23, C24 IOC24, C25 IOC25, C26 VCC@83 (power), D1 IOD1, D2 IOD2, D3 IOD3 (out), D4 GND@77 (power), D5 IOD5, D6 IOD6, D7 IOD7, D8 IOD8, D9 IOD9, D10 IOD10, D11 IOD11, D12 IOD12, D13 CLK11, D14 IOD14, D15 IOD15, D16 IOD16, D17 IOD17, D18 IOD18, D19 IOD19, D20 IOD20, D21 IOD21, D22 VCC@92 (power), D23 IOD23, D24 GND@78 (power), D25 IOD25, D26 IOD26, E1 IOE1, E2 IOE2, E3 IOE3 (out), E4 GND@1 (power), E5 IOE5, E6 VCC@99 (power), E7 GND@79 (power), E8 IOE8, E9 VCC@100 (power), E10 IOE10, E11 GND@80 (power), E12 IOE12, E13 VCC@101 (power), E14 VCC@93 (power), E15 IOE15, E16 GND@81 (power), E17 VCC@94 (power), E18 IOE18, E19 GND@82 (power), E20 IOE20, E21 GND@10 (power), E22 IOE22, E23 IOE23, E24 IOE24, E25 IOE25, E26 IOE26, F1 IOF1, F2 IOF2, F3 IOF3, F4 IOF4, F5 VCC@52 (power), F6 IOF6, F7 IOF7, F8 GND@12 (power), F9 IOF9, F10 IOF10, F11 IOF11, F12 IOF12, F13 IOF13, F14 IOF14, F15 IOF15, F16 IOF16, F17 IOF17, F18 IOF18, F19 GND@11 (power), F20 IOF20, F21 IOF21, F22 VCC@84 (power), F23 IOF23, F24 IOF24, F25 IOF25, F26 IOF26, G1 IOG1, G2 IOG2, G3 IOG3, G4 IOG4, G5 IOG5, G6 IOG6, G7 GND@2 (power), G8 VCC@8 (power), G9 IOG9, G10 IOG10, G11 IOG11, G12 IOG12, G13 IOG13, G14 IOG14, G15 IOG15, G16 IOG16, G17 IOG17, G18 IOG18, G19 VCC@7 (power), G20 GND@9 (power), G21 IOG21, G22 IOG22, G23 IOG23, G24 IOG24, G25 IOG25, G26 IOG26, H1 IOH1, H2 IOH2, H3 IOH3, H4 IOH4, H5 GND@83 (power), H6 IOH6, H7 VCC@1 (power), H8 IOH8, H9 VCC@102 (power), H10 IOH10, H11 IOH11, H12 IOH12, H13 GND@84 (power), H14 GND@85 (power), H15 IOH15, H16 IOH16, H17 IOH17, H18 VCC@95 (power), H19 VCC@9 (power), H20 VCC@6 (power), H21 IOH21, H22 GND@86 (power), H23 IOH23, H24 IOH24, H25 IOH25, H26 IOH26, J1 IOJ1, J2 IOJ2, J3 IOJ3, J4 IOJ4, J5 IOJ5, J6 IOJ6, J7 IOJ7, J8 IOJ8, J9 VCC@10 (power), J10 GND@13 (power), J11 GND@14 (power), J12 VCC@103 (power), J13 IOJ13, J14 IOJ14, J15 VCC@96 (power), J16 GND@15 (power), J17 IOJ17, J18 VCC@11 (power), J19 VCC@85 (power), J20 IOJ20, J21 IOJ21, J22 IOJ22, J23 IOJ23, J24 IOJ24, J25 IOJ25, J26 IOJ26, K1 IOK1, K2 IOK2, K3 IOK3, K4 IOK4, K5 IOK5, K6 IOK6, K7 IOK7, K8 IOK8, K9 VCC@12 (power), K10 VCC@13 (power), K11 VCC@14 (power), K12 VCC@15 (power), K13 VCC@16 (power), K14 VCC@17 (power), K15 VCC@18 (power), K16 GND@16 (power), K17 GND@17 (power), K18 VCC@19 (power), K19 IOK19, K20 GND@87 (power), K21 IOK21, K22 IOK22, K23 IOK23, K24 IOK24, K25 IOK25, K26 IOK26, L1 VCC@53 (power), L2 IOL2, L3 IOL3, L4 IOL4, L5 GND@88 (power), L6 IOL6, L7 IOL7, L8 TMS, L9 VCC@20 (power), L10 GND@18 (power), L11 VCC@21 (power), L12 GND@19 (power), L13 GND@20 (power), L14 GND@21 (power), L15 GND@22 (power), L16 VCC@22 (power), L17 VCC@23 (power), L18 VCC@24 (power), L19 IOL19, L20 IOL20, L21 IOL21, L22 GND@89 (power), L23 IOL23, L24 IOL24, L25 IOL25, L26 VCC@86 (power), M1 GND@90 (power), M2 IOM2, M3 IOM3, M4 IOM4, M5 IOM5, M6 TCK, M7 TDO (out), M8 TDI, M9 VCC@54 (power), M10 VCC@25 (power), M11 VCC@26 (power), M12 GND@23 (power), M13 GND@24 (power), M14 GND@25 (power), M15 GND@26 (power), M16 VCC@27 (power), M17 VCC@28 (power), M18 VCC@87 (power), M19 IOM19, M20 IOM20, M21 IOM21, M22 IOM22, M23 IOM23, M24 IOM24, M25 IOM25, M26 GND@91 (power), N1 CLK1, N2 CLK0, N3 DATA0, N4 NCE, N5 VCC@55 (power), N6 DCLK, N7 NCONFIG, N8 GND@92 (power), N9 ION9, N10 VCC@29 (power), N11 GND@27 (power), N12 GND@28 (power), N13 GND@29 (power), N14 GND@30 (power), N15 GND@31 (power), N16 GND@32 (power), N17 VCC@30 (power), N18 ION18, N19 GND@93 (power), N20 ION20, N21 ION21, N22 VCC@88 (power), N23 ION23, N24 ION24, N25 CLK4, N26 CLK5, P1 CLK3, P2 CLK2, P3 IOP3, P4 IOP4, P5 VCC@58 (power), P6 IOP6, P7 IOP7, P8 GND@94 (power), P9 IOP9, P10 VCC@31 (power), P11 GND@33 (power), P12 GND@34 (power), P13 GND@35 (power), P14 GND@36 (power), P15 GND@37 (power), P16 GND@38 (power), P17 VCC@32 (power), P18 IOP18, P19 GND@95 (power), P20 MSEL0, P21 MSEL1, P22 VCC@79 (power), P23 IOP23, P24 IOP24, P25 CLK6, P26 CLK7, R1 GND@96 (power), R2 IOR2, R3 IOR3, R4 IOR4, R5 IOR5, R6 IOR6, R7 IOR7, R8 IOR8, R9 VCC@59 (power), R10 VCC@33 (power), R11 VCC@34 (power), R12 GND@39 (power), R13 GND@40 (power), R14 GND@41 (power), R15 GND@42 (power), R16 VCC@35 (power), R17 GND@43 (power), R18 VCC@80 (power), R19 IOR19, R20 IOR20, R21 GND@97 (power), R22 NSTATUS, R23 CONF_DONE, R24 IOR24, R25 IOR25, R26 GND@98 (power), T1 VCC@60 (power), T2 IOT2, T3 IOT3, T4 IOT4, T5 GND@99 (power), T6 IOT6, T7 IOT7, T8 IOT8, T9 VCC@36 (power), T10 GND@44 (power), T11 VCC@37 (power), T12 GND@45 (power), T13 GND@46 (power), T14 GND@47 (power), T15 GND@48 (power), T16 VCC@38 (power), T17 GND@49 (power), T18 VCC@39 (power), T19 IOT19, T20 IOT20, T21 IOT21, T22 IOT22, T23 IOT23, T24 IOT24, T25 IOT25, T26 VCC@81 (power), U1 IOU1, U2 IOU2, U3 IOU3, U4 IOU4, U5 IOU5, U6 IOU6, U7 IOU7, U8 GND@100 (power), U9 VCC@40 (power), U10 GND@50 (power), U11 VCC@41 (power), U12 GND@51 (power), U13 VCC@42 (power), U14 VCC@43 (power), U15 VCC@44 (power), U16 VCC@45 (power), U17 GND@52 (power), U18 VCC@46 (power), U19 GND@101 (power), U20 IOU20, U21 IOU21, U22 IOU22, U23 IOU23, U24 IOU24, U25 IOU25, U26 IOU26, V1 IOV1, V2 IOV2, V3 IOV3, V4 IOV4, V5 IOV5, V6 IOV6, V7 IOV7, V8 VCC@61 (power), V9 VCC@47 (power), V10 VCC@48 (power), V11 GND@53 (power), V12 VCC@67 (power), V13 IOV13, V14 IOV14, V15 VCC@75 (power), V16 VCC@49 (power), V17 IOV17, V18 VCC@50 (power), V19 VCC@82 (power), V20 IOV20, V21 IOV21, V22 IOV22, V23 IOV23, V24 IOV24, V25 IOV25, V26 IOV26, W1 IOW1, W2 IOW2, W3 IOW3, W4 IOW4, W5 GND@102 (power), W6 IOW6, W7 GND@3 (power), W8 IOW8, W9 VCC@68 (power), W10 IOW10, W11 IOW11, W12 IOW12, W13 GND@103 (power), W14 GND@104 (power), W15 IOW15, W16 IOW16, W17 IOW17, W18 VCC@76 (power), W19 GND@54 (power), W20 GND@8 (power), W21 IOW21, W22 GND@105 (power), W23 IOW23, W24 IOW24, W25 IOW25, W26 IOW26, Y1 IOY1, Y2 IOY2, Y3 IOY3, Y4 IOY4, Y5 IOY5, Y6 GND@4 (power), Y7 VCC@2 (power), Y8 GND@5 (power), Y9 GND@106 (power), Y10 IOY10, Y11 IOY11, Y12 IOY12, Y13 IOY13, Y14 IOY14, Y15 IOY15, Y16 IOY16, Y17 GND@107 (power), Y18 IOY18, Y19 GND@6 (power), Y20 VCC@5 (power), Y21 IOY21, Y22 IOY22, Y23 IOY23, Y24 IOY24, Y25 IOY25, Y26 IOY26

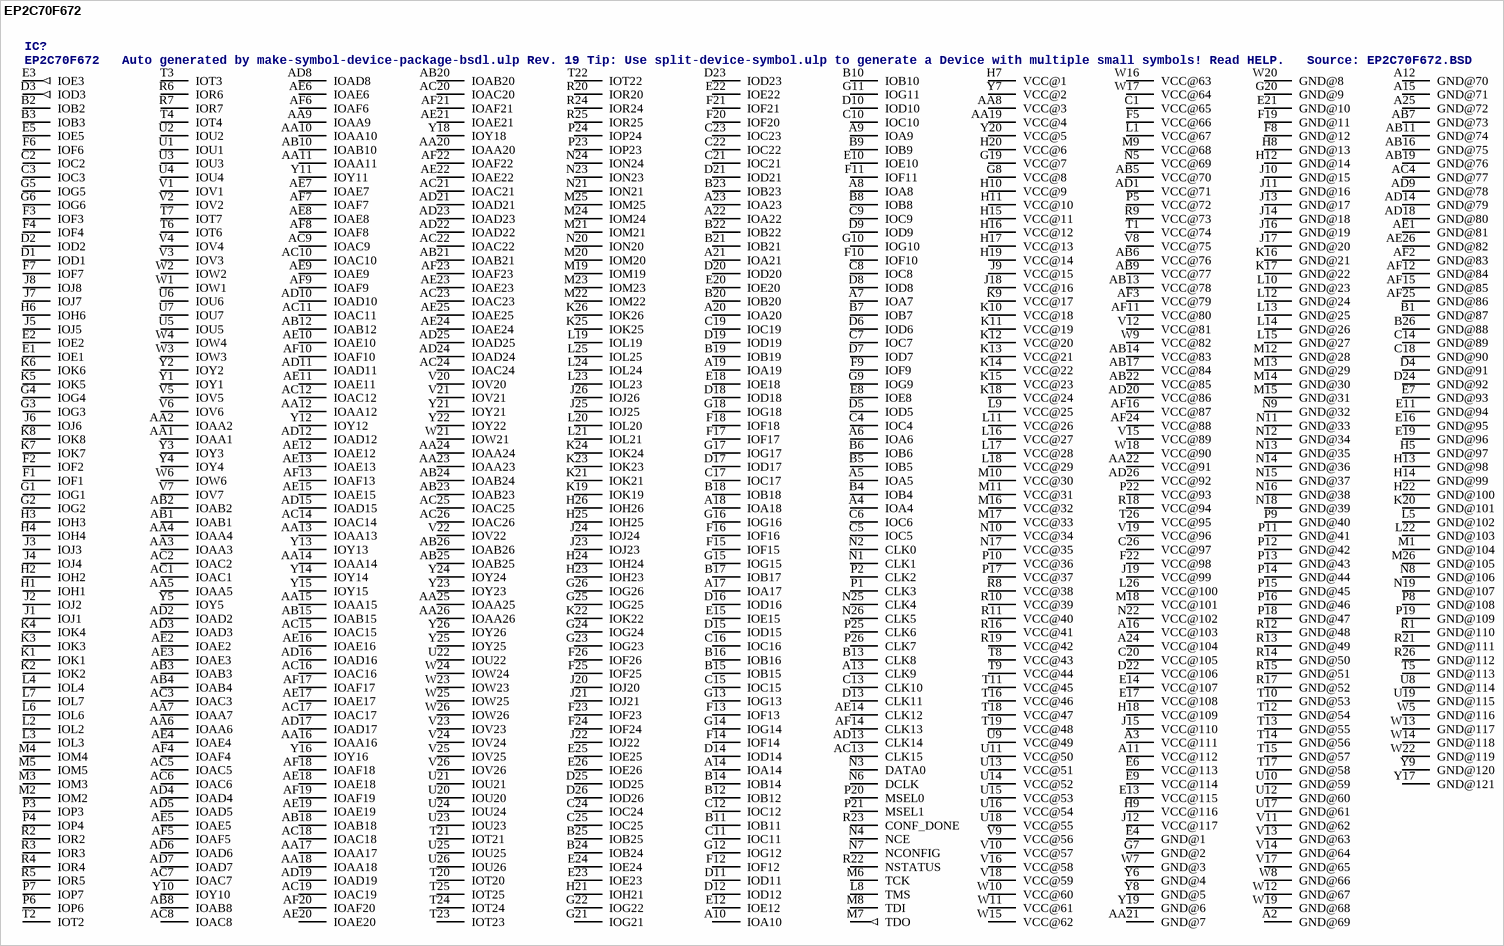
[diagram p19: symbol EP2C70F672]